# Altium schematic symbol library Integrated_Circuit.SchLib: 146 symbols (part 1 of 3)
Pins are listed as number, name and electrical type; pins without a type are passive.

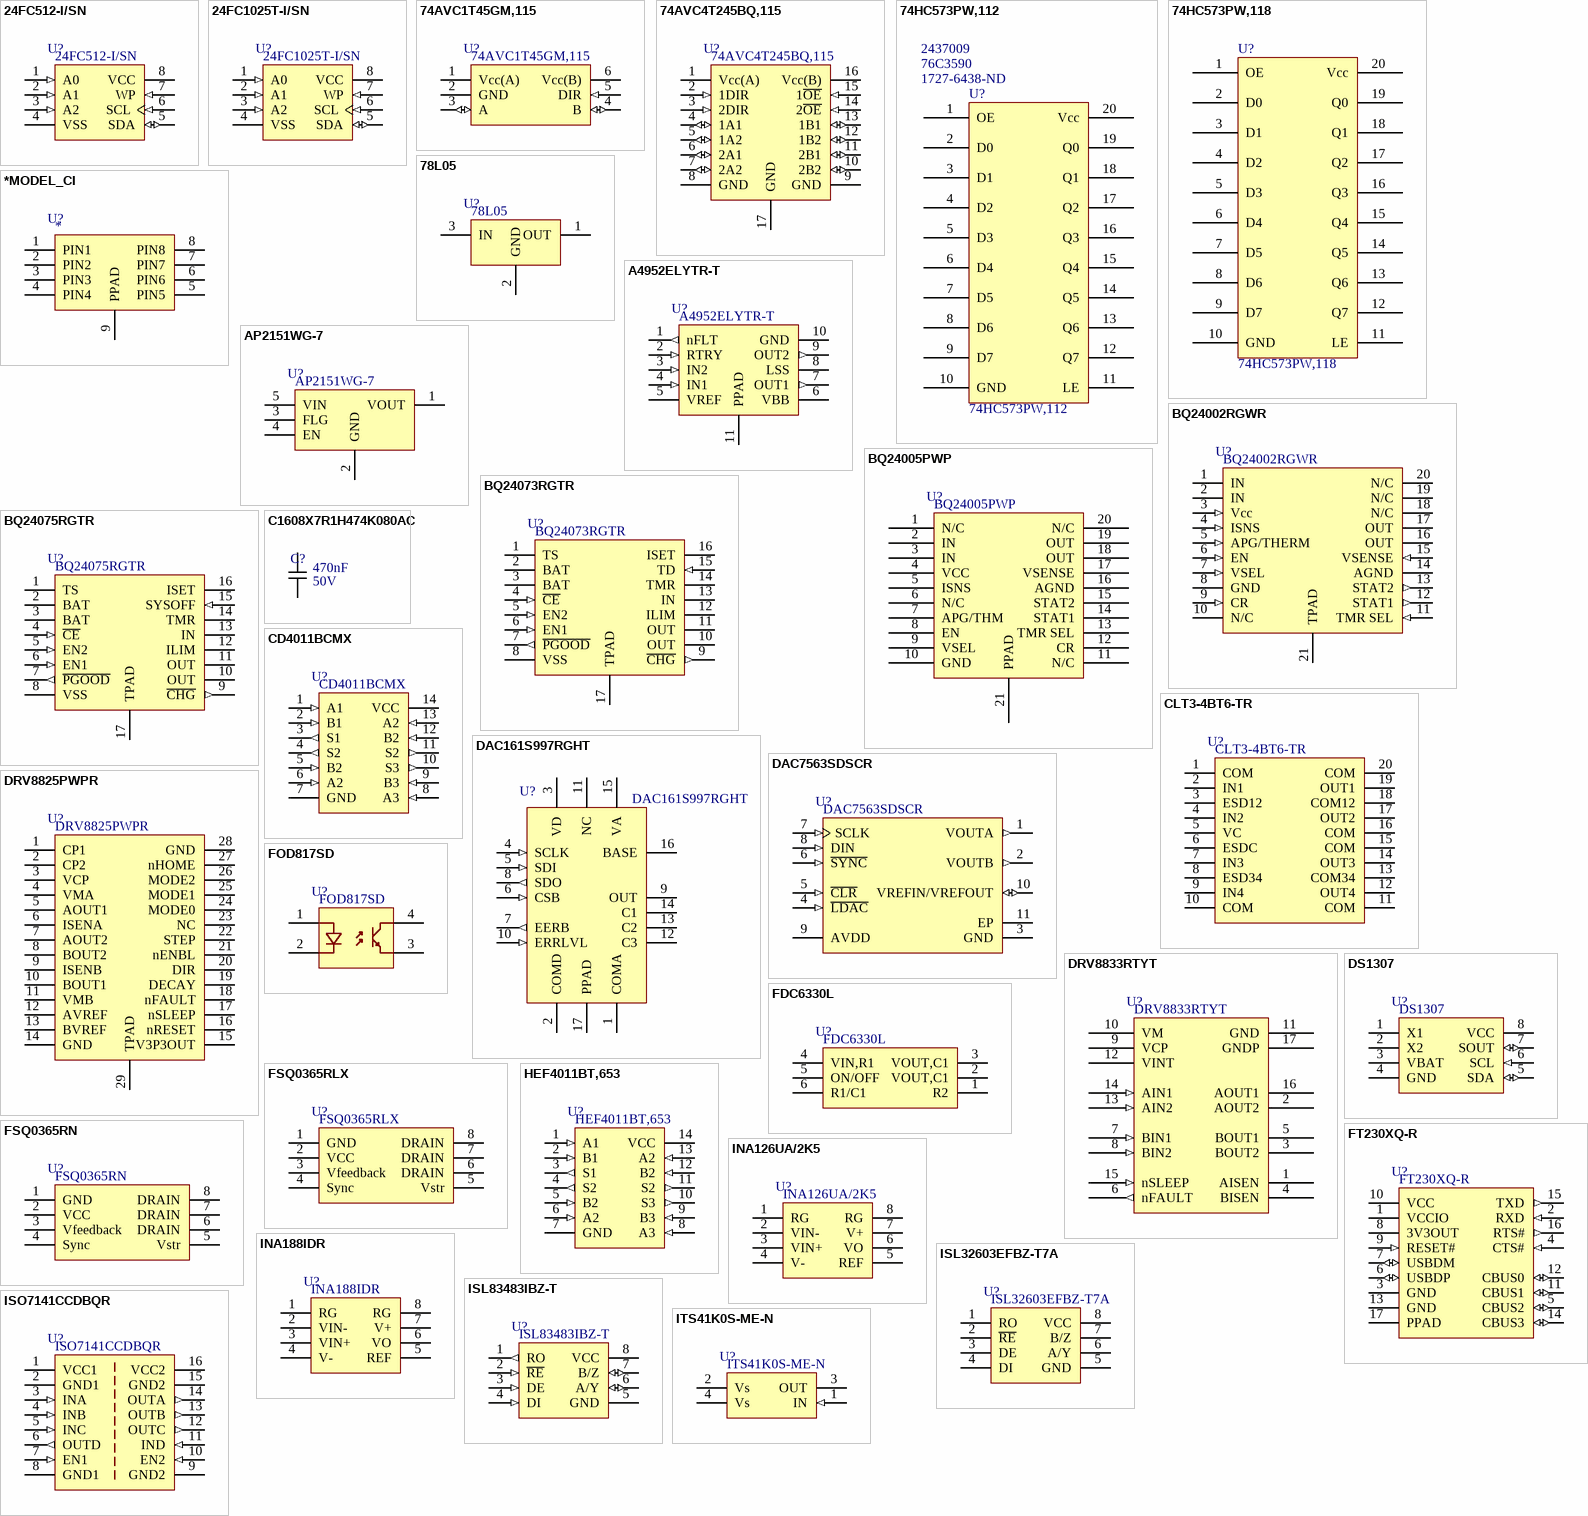
[diagram p0: symbols 24FC512-I/SN to ITS41K0S-ME-N]

## 24FC512-I/SN
designator U?
IC EEPROM 512KBIT 1MHZ 8SOIC; Manufacturer: Microchip; Mount Type: SMD; Category: Memory; Supplier 1: Digikey; Supplier Part Number 1: 24FC512-I/SN-ND; Supplier 2: Newark; Supplier Part Number 2: 08R2176; Supplier 3: Avnet; Supplier Part Number 3: 24FC512-I/SN; Supplier 4: Arrow; Supplier Part Number 4: 24FC512-I/SN; Supplier 5: Farnell; Supplier Part Number 5: 2318011; Value: 24FC512-I/SN
footprint SOIC-8 (SOIC, 8 Pin, Pitch 1,27mm)
pins: 1 A0 (in), 2 A1 (in), 3 A2 (in), 4 VSS (power), 5 SDA (io), 6 SCL (in), 7 WP (in), 8 VCC (power)
1 alternate drawing of the same symbol

## 24FC1025T-I/SN
designator U?
IC EEPROM 1MBIT 1MHZ 8SOIC; Manufacturer: Microchip; Mount Type: SMD; Category: Memory; Supplier 1: Mouser; Supplier 2: Newark; Supplier 3: Digi-Key; Supplier Part Number 1: 579-24FC1025T-I/SN; Supplier Part Number 2: 86W6593; Supplier Part Number 3: 24FC1025-I/SN-ND; Value: 24FC1025T-I/SN
footprint SOIC-8 (SOIC, 8 Pin, Pitch 1,27mm)
pins: 1 A0 (in), 2 A1 (in), 3 A2 (in), 4 VSS (power), 5 SDA (io), 6 SCL (in), 7 WP (in), 8 VCC (power)

## 74AVC1T45GM,115
designator U?
IC TRANSCEIVER DUAL 3ST 6XSON; Manufacturer: NXP Semiconductors; Mount type: SMD; Category: Logic - Translators; Supplier 1: Digi-Key; Supplier Part Number 1: 568-9214-1-ND; Value: 74AVC1T45GM,115
footprint XSON-6
pins: 1 Vcc(A) (power), 2 GND, 3 A (io), 4 B (io), 5 DIR (in), 6 Vcc(B) (power)

## 74AVC4T245BQ,115
designator U?
IC TXRX 4BIT DUAL 3ST 16DHVQFN; Manufacturer: NXP Semiconductors; Mount type: SMD; Category: Logic - Translators; Supplier 1: Digi-Key; Supplier Part Number 1: 568-9218-1-ND; Value: 74AVC4T245BQ,115
footprint VFQFN-16 (QFN, 16 Pin, 0.5mm Pitch)
pins: 1 Vcc(A) (power), 2 1DIR (in), 3 2DIR (in), 4 1A1 (io), 5 1A2 (io), 6 2A1 (io), 7 2A2 (io), 8 GND (power), 9 GND (power), 10 2B2 (io), 11 2B1 (io), 12 1B2 (io), 13 1B1 (io), 14 2~{OE} (in), 15 1~{OE} (in), 16 Vcc(B) (power), 17 GND (power)

## 74HC573PW,112
designator U?  Supplier Part Number 2: 1727-6438-ND  Supplier Part Number 3: 76C3590  Supplier Part Number 4: 2437009
IC LATCH TRANSP OCT D 20TSSOP; Manufacturer: Nexperia USA Inc.; Supplier 1: Digikey; Supplier Part Number 1: 568-10928-6-ND; Mounting Type: SMD; Supplier 2: Digi-Key; Supplier 3: Newark; Supplier 4: Farnell
footprint TSSOP-20
pins: 1 OE, 2 D0, 3 D1, 4 D2, 5 D3, 6 D4, 7 D5, 8 D6, 9 D7, 10 GND, 11 LE, 12 Q7, 13 Q6, 14 Q5, 15 Q4, 16 Q3, 17 Q2, 18 Q1, 19 Q0, 20 Vcc

## 74HC573PW,118
designator U?
IC LATCH TRANSP OCT D 20TSSOP; Manufacturer: Nexperia USA Inc.; Mounting Type: SMD; Supplier 1: Digi-Key; Supplier Part Number 1: 1727-3069-2-ND; Supplier 2: Digi-Key; Supplier Part Number 2: 1727-3069-6-ND; Supplier 3: Digi-Key; Supplier Part Number 3: 1727-6438-ND; Supplier 4: Digi-Key; Supplier Part Number 4: 1727-1458-1-ND; Supplier 5: Digi-Key; Supplier Part Number 5: 1727-1458-6-ND
footprint TSSOP-20
footprint TSSOP-20
pins: 1 OE, 2 D0, 3 D1, 4 D2, 5 D3, 6 D4, 7 D5, 8 D6, 9 D7, 10 GND, 11 LE, 12 Q7, 13 Q6, 14 Q5, 15 Q4, 16 Q3, 17 Q2, 18 Q1, 19 Q0, 20 Vcc

## 78L05
designator U?, comment value 78L05  (hidden comment: LM78L05)
IC 5.0V 100MA REGULATOR TO-92-3; Manufacturer: Texas Instruments; Category: Regulator; Mount Type: PTH
footprint TO-92
pins: 1 OUT, 2 GND (power), 3 IN

## *MODEL_CI
designator U?, comment Part Number  (value not drawn)
Description; Mount Type: *; Manufacturer: *; Category: *; Value: *
pins: 1 PIN1, 2 PIN2, 3 PIN3, 4 PIN4, 5 PIN5, 6 PIN6, 7 PIN7, 8 PIN8, 9 PPAD
1 alternate drawing of the same symbol

## A4952ELYTR-T
designator U?
IC MOTOR DRIVER PAR 10MSOP; Manufacturer: Allegro MicroSystems, LLC; Mount Type: SMD; Category: Driver; Supplier 1: Allied; Supplier 2: Newark; Supplier 3: Farnell; Supplier 4: Digi-Key; Supplier Part Number 1: R1076651; Supplier Part Number 2: 71T9770; Supplier Part Number 3: 2057419; Supplier Part Number 4: 620-1451-1-ND; Value: A4952ELYTR-T
footprint MSOP-10
pins: 1 nFLT (out), 2 RTRY (in), 3 IN2 (in), 4 IN1 (in), 5 VREF, 6 VBB (power), 7 OUT1 (out), 8 LSS, 9 OUT2 (out), 10 GND, 11 PPAD

## AP2151WG-7
designator U?
IC PWR SW USB 1CH 0.5A SOT-23-5; Manufacturer: Diodes Incorporated; Category: Regulator; Mount Type: SMD; Supplier 1: Mouser; Supplier 2: Newark; Supplier 3: Farnell; Supplier 4: Digi-Key; Supplier Part Number 1: 621-AP2151WG-7; Supplier Part Number 2: 12T1275; Supplier Part Number 3: 1843872; Supplier Part Number 4: AP2151WGDICT-ND; Value: AP2151WG-7
footprint SOT23-5
pins: 1 VOUT, 2 GND, 3 FLG, 4 EN, 5 VIN (power)

## BQ24002RGWR
designator U?
IC LI-ION CHARGE MGMT 20VQFN; Manufacturer: Texas Instruments; Mount type: SMD; Category: Battery Charger; Supplier 1: Digi-Key; Supplier Part Number 1: 296-12969-1-ND; Supplier 2: Mouser; Supplier Part Number 2: 595-BQ24002RGWR; Supplier 3: Newark; Supplier Part Number 3: 24K4381; Value: BQ24002RGWR
footprint VQFN-20 (20-Pin Plastic Quad Flat No-Lead 0.65 mm Pitch)
pins: 1 IN (power), 2 IN (power), 3 Vcc (in), 4 ISNS (in), 5 APG/THERM (in), 6 EN (in), 7 VSEL (in), 8 GND, 9 CR (in), 10 N/C, 11 TMR SEL (in), 12 STAT1 (out), 13 STAT2 (out), 14 AGND (power), 15 VSENSE (in), 16 OUT (power), 17 OUT (power), 18 N/C, 19 N/C, 20 N/C, 21 TPAD

## BQ24005PWP
designator U?
IC LI-ION CHARGE MGMT 20-HTSSOP; Manufacturer: Texas Instruments; Mount Type: SMD; Category: Battery Charger; Supplier 1: Farnell; Supplier 2: Digi-Key; Supplier 3: Newark; Supplier 4: Mouser; Supplier Part Number 1: 1106058; Supplier Part Number 2: 296-9382-5-ND; Supplier Part Number 3: 74C7641; Supplier Part Number 4: 595-BQ24005PWP; Value: BQ24005PWP
footprint TSSOP-20-PPAD
pins: 1 N/C, 2 IN, 3 IN, 4 VCC, 5 ISNS, 6 N/C, 7 APG/THM, 8 EN, 9 VSEL, 10 GND, 11 N/C, 12 CR, 13 TMR SEL, 14 STAT1, 15 STAT2, 16 AGND, 17 VSENSE, 18 OUT, 19 OUT, 20 N/C, 21 PPAD

## BQ24073RGTR
designator U?
IC LI-ION CHARGE MGMT 16-QFN; Manufacturer: Texas Instruments; Mount type: SMD; Category: Battery Charger; Supplier 1: Digi-Key; Supplier Part Number 1: 296-38872-1-ND; Supplier 2: Mouser; Supplier Part Number 2: 595-BQ24073RGTR; Supplier 3: Newark; Supplier Part Number 3: 84R9382; Supplier 4: Farnell; Supplier Part Number 4: 1754754; Value: BQ24073RGTR
footprint QFN-16 0.5 Pitch (QFN, 16 Pin, 0,5mm Pitch)
pins: 1 TS, 2 BAT (power), 3 BAT (power), 4 ~{CE} (in), 5 EN2 (in), 6 EN1 (in), 7 ~{PGOOD} (out), 8 VSS (power), 9 ~{CHG} (out), 10 OUT (power), 11 OUT (power), 12 ILIM, 13 IN (power), 14 TMR, 15 TD (in), 16 ISET, 17 TPAD

## BQ24075RGTR
designator U?
IC LI-ION CHARGE MGMT 16-QFN; Manufacturer: Texas Instruments; Mount type: SMD; Category: Battery Charger; Supplier 1: Arrow; Supplier Part Number 1: BQ24075RGTR**MULT1; Supplier 2: Digikey; Supplier Part Number 2: 296-38874-1-ND; Supplier 3: Mouser; Supplier Part Number 3: 595-BQ24075RGTR; Supplier 4: Newark; Supplier Part Number 4: 31P7535; Supplier 5: Avnet; Supplier Part Number 5: BQ24075RGTR; Value: BQ24075RGTR
footprint QFN-16 0.5 Pitch (QFN, 16 Pin, 0,5mm Pitch)
pins: 1 TS, 2 BAT (power), 3 BAT (power), 4 ~{CE} (in), 5 EN2 (in), 6 EN1 (in), 7 ~{PGOOD} (out), 8 VSS (power), 9 ~{CHG} (out), 10 OUT (power), 11 OUT (power), 12 ILIM, 13 IN (power), 14 TMR, 15 SYSOFF (in), 16 ISET, 17 TPAD

## C1608X7R1H474K080AC
designator C?  value 470nF  Voltage: 50V  (hidden comment: C1608X7R1H474K080AC)
CAP CER 0.47UF 50V 10% X7R 0603; Manufacturer: TDK Corporation; Mount Type: SMD; Category: *; Dielectric: *; Supplier 1: Digi-Key; Supplier Part Number 1: 445-5952-1-ND
footprint C0603_MD (Chip Capacitor, Body 1.6x0.8mm, IPC Medium Density)
pins: 1, 2

## CD4011BCMX
designator U?
IC GATE NAND 4CH 2-INP 14-SOIC; Manufacturer: Fairchild Semiconductor; Mount Type: SMD; Category: Logic Gate; Supplier 1: Mouser; Supplier 2: Newark; Supplier 3: Farnell; Supplier 4: Digi-Key; Supplier Part Number 1: 512-CD4011BCMX; Supplier Part Number 2: 36K3118; Supplier Part Number 3: 9666311; Supplier Part Number 4: CD4011BCM-ND; Value: CD4011BCMX
footprint SOIC-14
pins: 1 A1 (in), 2 B1 (in), 3 S1 (out), 4 S2 (out), 5 B2 (in), 6 A2 (in), 7 GND (power), 8 A3 (in), 9 B3 (in), 10 S3 (out), 11 S2 (out), 12 B2 (in), 13 A2 (in), 14 VCC (power)

## CLT3-4BT6-TR
designator U?
TERMINATION QUAD DGTL TSSOP-20; Manufacturer: STMicroelectronics; Mount Type: SMD; Category: Circuit Protection; Supplier 1: Digi-Key; Supplier Part Number 1: 497-2455-1-ND; Value: CLT3-4BT6-TR
footprint TSSOP-20
pins: 1 COM, 2 IN1, 3 ESD12, 4 IN2, 5 VC, 6 ESDC, 7 IN3, 8 ESD34, 9 IN4, 10 COM, 11 COM, 12 OUT4, 13 COM34, 14 OUT3, 15 COM, 16 COM, 17 OUT2, 18 COM12, 19 OUT1, 20 COM

## DAC161S997RGHT
designator U?
IC DAC 16BIT SPI/SRL 16WQFN; Manufacturer: Texas Instruments; Moun Type: SMD; Category: DAC; Supplier 1: Newark; Supplier 2: Mouser; Supplier 3: Digi-Key; Supplier Part Number 1: 04X4645; Supplier Part Number 2: 595-DAC161S997RGHT; Supplier Part Number 3: 296-36425-1-ND; Value: DAC161S997RGHT
footprint WQFN-16 (QFN, 16 Pin, 0.5mm Pitch)
pins: 1 COMA (power), 2 COMD (power), 3 VD (power), 4 SCLK (in), 5 SDI (in), 6 CSB (in), 7 EERB (out), 8 SDO (out), 9 OUT, 10 ERRLVL (in), 11 NC, 12 C3, 13 C2, 14 C1, 15 VA (power), 16 BASE, 17 PPAD

## DAC7563SDSCR
designator U?
IC DAC 12BIT SRL DUAL 10WSON; Manufacturer: Texas Instruments; Mount Type: SMD; Category: DAC; Supplier 1: Digi-Key; Supplier Part Number 1: 296-29025-1-ND; Supplier 2: Avnet; Supplier Part Number 2: DAC7563SDSCR; Value: DAC7563SDSCR
footprint WFDFN-10-PPAD
pins: 1 VOUTA (out) "Analog output voltage from DAC-A", 2 VOUTB (out) "Analog output voltage from DAC-B", 3 GND (power) "Ground reference point for all circuitry on the device", 4 ~{LDAC} (in) "In synchronous mode, data are updated with the falling edge of the 24th SCLK cycle, which follows a falling edge of S\Y\N\C\. For such synchronous updates, the L\D\A\C\ pin is not required, and it must be connected to GND (See Datasheet)", 5 ~{CLR} (in) "Asynchronous clear input. The C\L\R\ input is falling-edge sensitive. When C\L\R\ is activated, zero scale (DACxx62) or mid-scale (DACxx63) is loaded to all input and DAC registers. This sets the DAC output voltages (See Datasheet)", 6 ~{SYNC} (in) "Level-triggered control input (active-low). This input is the frame synchronization signal for the input data. When S\Y\N\C\ goes low, it enables the input shift register, and data are sampled on subsequent falling clock (See Datasheet)", 7 SCLK (in) "Serial clock input. Data can be transferred at rates up to 50 MHz. Schmitt-trigger logic input", 8 DIN (in) "Serial data input. Data are clocked into the 24-bit input shift register on each falling edge of the serial clock input. Schmitt-trigger logic input", 9 AVDD (power) "Power-supply input, 2.7 V to 5.5 V", 10 VREFIN/VREFOUT (io) "Bidirectional voltage reference pin. If internal reference is used, 2.5-V output.", 11 EP (power) "It is recommended to connect the thermal pad to the ground plane for better thermal dissipation."

## DRV8825PWPR
designator U?
IC MOTOR DRIVER PAR 28HTSSOP; Manufacturer: Texas Instruments; Mount Type: SMD; Category: Driver; Supplier 1: Newark; Supplier Part Number 1: 48T4144; Supplier 2: Farnell; Supplier Part Number 2: 1903642; Supplier 3: Digi-Key; Supplier Part Number 3: 296-29503-1-ND; Value: DRV8825PWPR
footprint HTSSOP-28 (HTSSOP, Plastic; 16 Leads; Pitch 0.65 mm)
pins: 1 CP1, 2 CP2, 3 VCP, 4 VMA, 5 AOUT1, 6 ISENA, 7 AOUT2, 8 BOUT2, 9 ISENB, 10 BOUT1, 11 VMB, 12 AVREF, 13 BVREF, 14 GND, 15 V3P3OUT, 16 nRESET, 17 nSLEEP, 18 nFAULT, 19 DECAY, 20 DIR, 21 nENBL, 22 STEP, 23 NC, 24 MODE0, 25 MODE1, 26 MODE2, 27 nHOME, 28 GND, 29 TPAD

## DRV8833RTYT
designator U?
IC MOTOR DRIVER PAR 16QFN; Manufacturer: Texas Instruments; Mount Type: SMD; Category: Driver; Supplier 1: Mouser; Supplier 2: Farnell; Supplier 3: Digi-Key; Supplier 4: Newark; Supplier Part Number 1: 595-DRV8833RTYT; Supplier Part Number 2: 2057087; Supplier Part Number 3: 296-29513-1-ND; Supplier Part Number 4: 64T2942; Value: DRV8833RTYT
footprint QFN-16 (QFN, 16 Pin, 0,65mm Pitch)
pins: 1 AISEN, 2 AOUT2, 3 BOUT2, 4 BISEN, 5 BOUT1, 6 nFAULT (out), 7 BIN1 (in), 8 BIN2 (in), 9 VCP, 10 VM (power), 11 GND (power), 12 VINT, 13 AIN2 (in), 14 AIN1 (in), 15 nSLEEP (in), 16 AOUT1, 17 GNDP

## DS1307
designator U?
IC RTC SERIAL 512K 8-DIP; Manufacturer: Maxim Integrated Products; Mount Type: PTH; Category: RTC; Value: DS1307
footprint DIP-8 (DIP, 8-Pin, Row Spacing 7.62 mm, Pitch 2.54 mm)
pins: 1 X1, 2 X2, 3 VBAT (power), 4 GND (power), 5 SDA (io), 6 SCL (in), 7 SOUT (io), 8 VCC (power)

## FDC6330L
designator U?
IC LOAD SWITCH INT 20VIN SSOT-6; Manufacturer: Fairchild Semiconductor; Category: Switch; Mount Type: SMD; Supplier 1: Newark; Supplier 2: Mouser; Supplier 3: Digi-Key; Supplier 4: Farnell; Supplier Part Number 1: 58K8823; Supplier Part Number 2: 512-FDC6330L; Supplier Part Number 3: FDC6330LCT-ND; Supplier Part Number 4: 9844864; Value: FDC6330L
footprint TSOT-23-6
pins: 1 R2, 2 VOUT,C1, 3 VOUT,C1, 4 VIN,R1, 5 ON/OFF, 6 R1/C1

## FOD817SD
designator U?
OPTOISOLATOR 5KV TRANSISTOR 4SMD; Manufacturer: Fairchild Semiconductor; Category: OPTOISOLATOR; Mount Type: SMD; Supplier 1: Newark; Supplier Part Number 1: 31Y1499; Supplier 2: Mouser; Supplier Part Number 2: 512-FOD817S; Supplier 3: Farnell; Supplier Part Number 3: 2453207; Supplier 4: Digi-Key; Supplier Part Number 4: FOD817SDCT-ND; Value: FOD817SD
footprint SOP-4 (SOP, 4 Pin, 1.27mm Pitch)
pins: 1, 2, 3, 4

## FSQ0365RLX
designator U?
IC SWIT PWM GREEN OVP UVLO 8SOP; Manufacturer: Fairchild; Category: Power Supply; Mount Type: SMD; Supplier 1: Mouser; Supplier Part Number 1: 512-FSQ0365RLX; Supplier 2: Digi-Key; Supplier Part Number 2: FSQ0365RLX-ND; Supplier 3: Farnell; Supplier Part Number 3: 2084001; Value: FSQ0365RLX
footprint SOIC-8 (SOIC, 8 Pin, Pitch 1,27mm)
pins: 1 GND (power), 2 VCC (power), 3 Vfeedback, 4 Sync, 5 Vstr, 6 DRAIN, 7 DRAIN, 8 DRAIN

## FSQ0365RN
designator U?
IC SWIT PWM GREEN OVP UVLO 8DIP; Manufacturer: Fairchild Semiconductor; Category: Power Supply; Mount Type: PTH; Supplier 1: Digi-Key; Supplier Part Number 1: FSQ0365RNFS-ND; Supplier 2: Mouser; Supplier Part Number 2: 512-FSQ0365RN; Supplier 3: Newark; Supplier Part Number 3: 53M7708; Supplier 4: Farnell; Supplier Part Number 4: 1421266; Value: FSQ0365RN
footprint DIP-8 (DIP, 8-Pin, Row Spacing 7.62 mm, Pitch 2.54 mm)
pins: 1 GND (power), 2 VCC (power), 3 Vfeedback, 4 Sync, 5 Vstr, 6 DRAIN, 7 DRAIN, 8 DRAIN

## FT230XQ-R
designator U?
IC USB SERIAL BASIC UART 16QFN; Manufacturer: FTDI; Mount Type: SMD; Category: Interface; Supplier 1: Digi-Key; Supplier Part Number 1: 768-1130-1-ND; Value: FT230XQ-R
footprint QFN-16 (QFN, 16 Pin, 0,65mm Pitch)
pins: 1 VCCIO (power), 2 RXD (in), 3 GND (power), 4 CTS# (in), 5 CBUS2 (io), 6 USBDP (io), 7 USBDM (io), 8 3V3OUT (power), 9 RESET# (in), 10 VCC (power), 11 CBUS1 (io), 12 CBUS0 (io), 13 GND (power), 14 CBUS3 (io), 15 TXD (out), 16 RTS# (out), 17 PPAD (power)

## HEF4011BT,653
designator U?
IC GATE NAND 4CH 2-INP 14-SOIC; Manufacturer: NXP Semiconductors; Mount Type: SMD; Category: Logic Gate; Supplier 1: Newark; Supplier 2: Digi-Key; Supplier 3: Mouser; Supplier 4: Farnell; Supplier Part Number 1: 05B5582; Supplier Part Number 2: 568-3075-5-ND; Supplier Part Number 3: 771-HEF4011BTD; Supplier Part Number 4: 2439310; Value: HEF4011BT,653
footprint SOIC-14
pins: 1 A1 (in), 2 B1 (in), 3 S1 (out), 4 S2 (out), 5 B2 (in), 6 A2 (in), 7 GND (power), 8 A3 (in), 9 B3 (in), 10 S3 (out), 11 S2 (out), 12 B2 (in), 13 A2 (in), 14 VCC (power)

## INA126UA/2K5
designator U?
IC OPAMP INSTR 200KHZ 8SOIC; Manufacturer: Texas Instruments; Mount Type: SMD; Category: AmpOp; Supplier 1: Digi-Key; Supplier Part Number 1: 296-31643-1-ND; Value: INA126UA/2K5
footprint SOIC-8 (SOIC, 8 Pin, Pitch 1,27mm)
simulation model INA126 (Model Description)
pins: 1 RG, 2 VIN-, 3 VIN+, 4 V- (power), 5 REF, 6 VO, 7 V+ (power), 8 RG

## INA188IDR
designator U?
IC OP AMP R-R OUT ZD 8SOIC; Manufacturer: Texas Instruments; Mount Type: SMD; Category: AmpOp; Supplier 1: Farnell; Supplier Part Number 1: 2507235; Supplier 2: Newark; Supplier Part Number 2: 75Y1102; Supplier 3: Avnet; Supplier Part Number 3: INA188IDR; Supplier 4: Digi-Key; Supplier Part Number 4: 296-43151-1-ND; Value: INA188IDR
footprint SOIC-8 (SOIC, 8 Pin, Pitch 1,27mm)
simulation model INA188 (Model Description)
pins: 1 RG, 2 VIN-, 3 VIN+, 4 V- (power), 5 REF, 6 VO, 7 V+ (power), 8 RG

## ISL32603EFBZ-T7A
designator U?
IC TXRX RS485/422 ESD 8SOIC; Manufacturer: Intersil; Mount Type: SMD; Category: Transciever; Supplier 1: Newark; Supplier 2: Mouser; Supplier 3: Digi-Key; Supplier Part Number 1: 18W6580; Supplier Part Number 2: 968-ISL32603EFBZ-T7A; Supplier Part Number 3: ISL32603EFBZ-T7ACT-ND; Value: ISL32603EFBZ-T7A
footprint SOIC-8 (SOIC, 8 Pin, Pitch 1,27mm)
pins: 1 RO, 2 ~{RE}, 3 DE, 4 DI, 5 GND, 6 A/Y, 7 B/Z, 8 VCC

## ISL83483IBZ-T
designator U?
TXRX RS-485/422 3.3V LP 8-SOIC; Manufacturer: Intersil; Mount Type: SMD; Category: Transciever; Supplier 1: Farnell; Supplier Part Number 1: 1296639; Supplier 2: Newark; Supplier Part Number 2: 65T7312; Supplier 3: Digi-Key; Supplier Part Number 3: ISL83483IBZ-T7ACT-ND; Supplier 4: Mouser; Supplier Part Number 4: 968-ISL83483IBZ; Value: ISL83483IBZ-T
footprint SOIC-8 (SOIC, 8 Pin, Pitch 1,27mm)
pins: 1 RO (out), 2 ~{RE} (in), 3 DE (in), 4 DI (in), 5 GND (power), 6 A/Y (io), 7 B/Z (io), 8 VCC (power)

## ISO7141CCDBQR
designator U?
DGTL ISO 2.5KV GEN PURP 16SSOP; Manufacturer: Texas Instruments; Mount Type: SMD; Category: Isolator; Supplier 1: Newark; Supplier Part Number 1: 08X4584; Supplier 2: Avnet; Supplier Part Number 2: ISO7141CCDBQR; Supplier 3: Digi-Key; Supplier Part Number 3: 296-40137-1-ND; Supplier 4: Farnell; Supplier Part Number 4: 2345965; Value: ISO7141CCDBQR
footprint SSOP16 - 0.635 pitch
pins: 1 VCC1 (power), 2 GND1 (power), 3 INA (in), 4 INB (in), 5 INC (in), 6 OUTD (out), 7 EN1 (in), 8 GND1 (power), 9 GND2 (power), 10 EN2 (in), 11 IND (in), 12 OUTC (out), 13 OUTB (out), 14 OUTA (out), 15 GND2 (power), 16 VCC2 (power)

## ITS41K0S-ME-N
designator U?
IC SMART SWITCH HS NMOS SOT-223; Manufacturer: Infineon Technologies; Mount Type: SMD; Category: Switch; Supplier 1: Mouser; Supplier Part Number 1: 726-ITS41K0S-ME-N; Supplier 2: Newark; Supplier Part Number 2: 50Y2154; Supplier 3: Farnell; Supplier Part Number 3: 2480578; Supplier 4: Digi-Key; Supplier Part Number 4: ITS41K0S-ME-NCT-ND; Value: ITS41K0S-ME-N
footprint SOT223 (SOT223, 4-Leads, Body 6.5x3.5mm, Pitch 2.3mm, Lead Span 7mm, IPC Medium Density)
pins: 1 IN (in), 2 Vs, 3 OUT, 4 Vs (power)

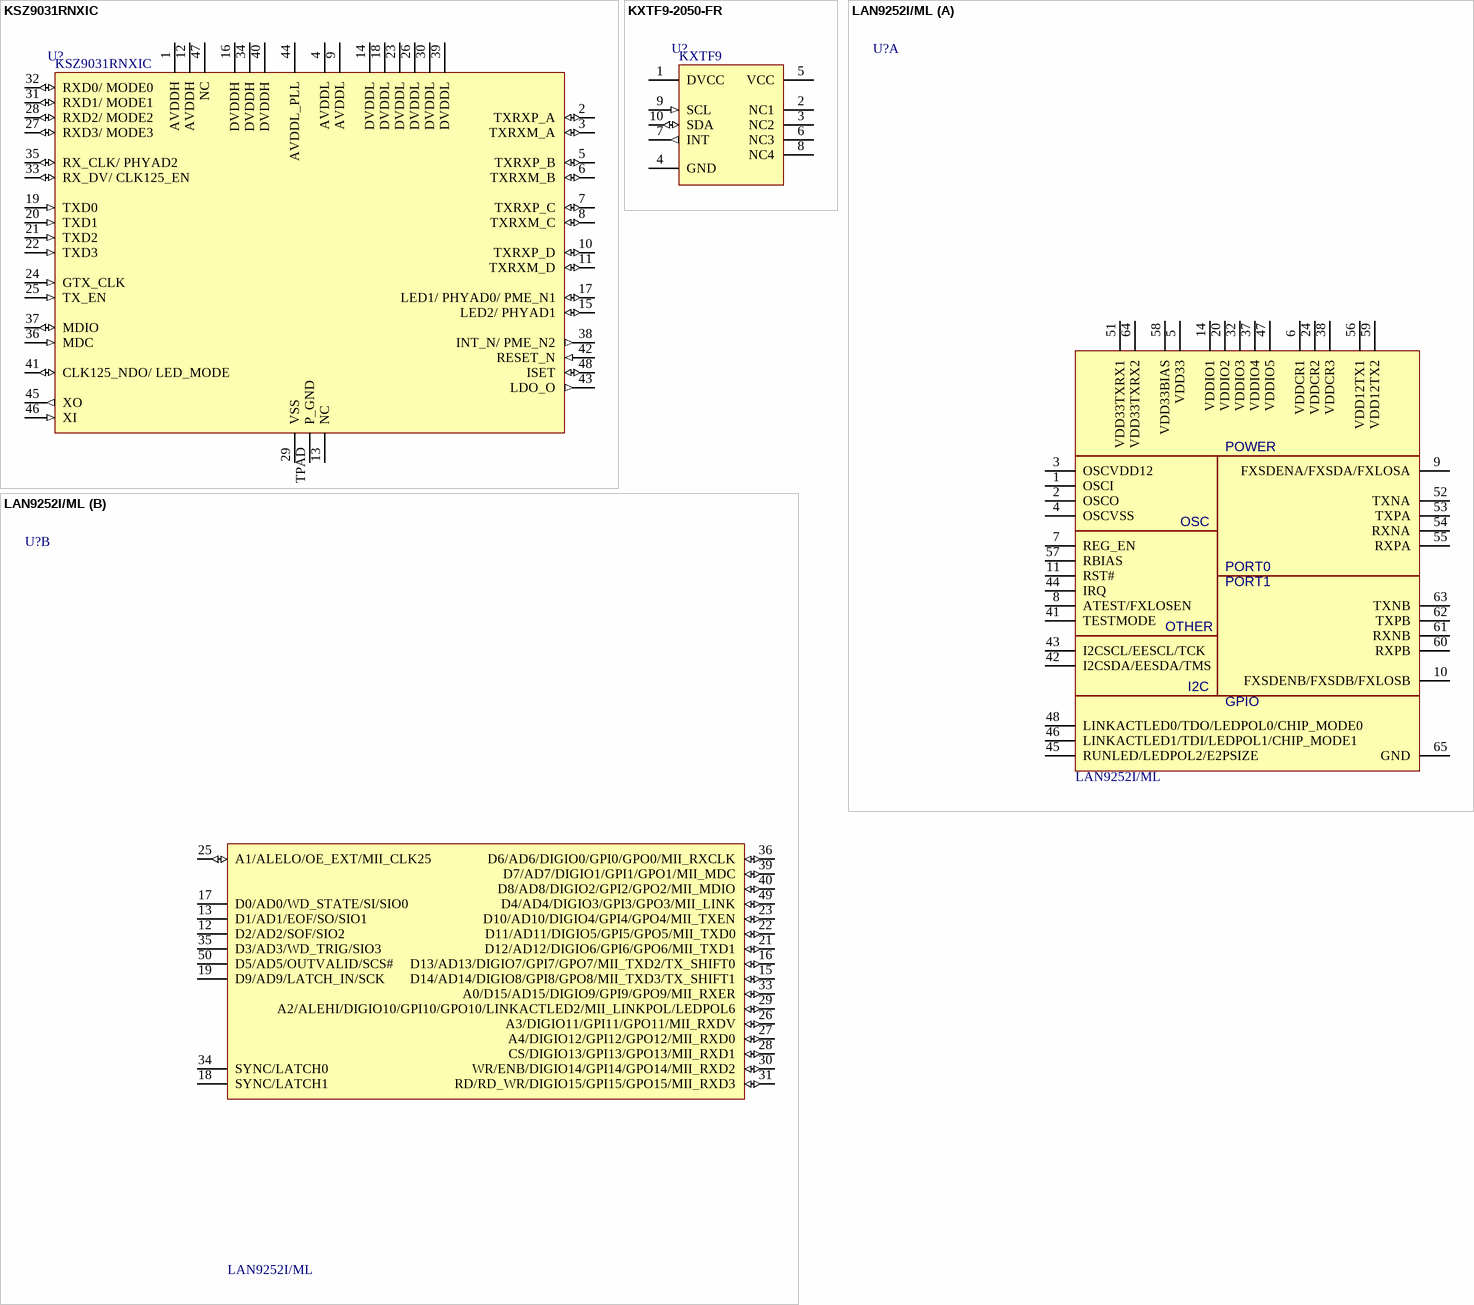
[diagram p1: symbols KSZ9031RNXIC to LAN9252I/ML]

## KSZ9031RNXIC
designator U?
IC TXRX ETHERNET; Manufacturer: Microchip Technology; Mount Type: SMD; Category: Ethernet PHY; Supplier 1: Digikey; Supplier Part Number 1: KSZ9031RNXIC-ND; Supplier 2: Arrow; Supplier Part Number 2: KSZ9031RNXIC; Supplier 3: Mouser; Supplier Part Number 3: 998-KSZ9031RNXIC; Supplier 4: Newark; Supplier Part Number 4: 70Y9066; Value: KSZ9031RNXIC
footprint VFQFN-48 (QFN, 48 Pin, 0.5mm Pitch)
ibis ksz9031rnx_1v8 (Model Description)
ibis ksz9031rnx_2v5 (Model Description)
ibis ksz9031rnx_3v3 (Model Description)
pins: 1 AVDDH (power), 2 TXRXP_A (io), 3 TXRXM_A (io), 4 AVDDL (power), 5 TXRXP_B (io), 6 TXRXM_B (io), 7 TXRXP_C (io), 8 TXRXM_C (io), 9 AVDDL (power), 10 TXRXP_D (io), 11 TXRXM_D (io), 12 AVDDH (power), 13 NC, 14 DVDDL (power), 15 LED2/ PHYAD1 (io), 16 DVDDH (power), 17 LED1/ PHYAD0/ PME_N1 (io), 18 DVDDL (power), 19 TXD0 (in), 20 TXD1 (in), 21 TXD2 (in), 22 TXD3 (in), 23 DVDDL (power), 24 GTX_CLK (in), 25 TX_EN (in), 26 DVDDL (power), 27 RXD3/ MODE3 (io), 28 RXD2/ MODE2 (io), 29 VSS (power), 30 DVDDL (power), 31 RXD1/ MODE1 (io), 32 RXD0/ MODE0 (io), 33 RX_DV/ CLK125_EN (io), 34 DVDDH (power), 35 RX_CLK/ PHYAD2 (io), 36 MDC (in), 37 MDIO (io), 38 INT_N/ PME_N2 (out), 39 DVDDL (power), 40 DVDDH (power), 41 CLK125_NDO/ LED_MODE (io), 42 RESET_N (in), 43 LDO_O (out), 44 AVDDL_PLL (power), 45 XO (out), 46 XI (in), 47 NC, 48 ISET (io), TPAD P_GND (power)

## KXTF9-2050-FR
designator U?  value KXTF9  (hidden comment: KXTF9-2050-FR)
IC ACCELEROMETER TRI-AXIS 10-LGA; Manufacturer: Kionix Inc; Mount type: SMD; Category: Accelerometers; Supplier 1: Digi-Key; Supplier Part Number 1: 1191-1000-1-ND
footprint VFLGA-10
pins: 1 DVCC, 2 NC1, 3 NC2, 4 GND, 5 VCC, 6 NC3, 7 INT (out), 8 NC4, 9 SCL (in), 10 SDA (io)

## LAN9252I/ML
designator U?
IC ETHERCAT CTLR 10/100 64QFN; Manufacturer: Microchip Technology; Category: Interface - Controllers; Mount Type: SMD; Supplier 1: Newark; Supplier Part Number 1: 46Y7861; Supplier 2: Arrow; Supplier Part Number 2: LAN9252I/ML; Supplier 3: Mouser; Supplier Part Number 3: 579-LAN9252I/ML; Supplier 4: Digi-Key; Supplier Part Number 4: LAN9252I/ML-ND; Value: LAN9252I/ML
footprint VFQFN-64
part A pins: 1 OSCI, 2 OSCO, 3 OSCVDD12, 4 OSCVSS, 5 VDD33 (power), 6 VDDCR1 (power), 7 REG_EN (power), 8 ATEST/FXLOSEN, 9 FXSDENA/FXSDA/FXLOSA, 10 FXSDENB/FXSDB/FXLOSB, 11 RST#, 14 VDDIO1 (power), 20 VDDIO2 (power), 24 VDDCR2 (power), 32 VDDIO3 (power), 37 VDDIO4 (power), 38 VDDCR3 (power), 41 TESTMODE, 42 I2CSDA/EESDA/TMS, 43 I2CSCL/EESCL/TCK, 44 IRQ, 45 RUNLED/LEDPOL2/E2PSIZE, 46 LINKACTLED1/TDI/LEDPOL1/CHIP_MODE1, 47 VDDIO5 (power), 48 LINKACTLED0/TDO/LEDPOL0/CHIP_MODE0, 51 VDD33TXRX1 (power), 52 TXNA, 53 TXPA, 54 RXNA, 55 RXPA, 56 VDD12TX1 (power), 57 RBIAS, 58 VDD33BIAS (power), 59 VDD12TX2 (power), 60 RXPB, 61 RXNB, 62 TXPB, 63 TXNB, 64 VDD33TXRX2 (power), 65 GND
part B pins: 12 D2/AD2/SOF/SIO2, 13 D1/AD1/EOF/SO/SIO1, 15 D14/AD14/DIGIO8/GPI8/GPO8/MII_TXD3/TX_SHIFT1 (io), 16 D13/AD13/DIGIO7/GPI7/GPO7/MII_TXD2/TX_SHIFT0 (io), 17 D0/AD0/WD_STATE/SI/SIO0, 18 SYNC/LATCH1, 19 D9/AD9/LATCH_IN/SCK, 21 D12/AD12/DIGIO6/GPI6/GPO6/MII_TXD1 (io), 22 D11/AD11/DIGIO5/GPI5/GPO5/MII_TXD0 (io), 23 D10/AD10/DIGIO4/GPI4/GPO4/MII_TXEN (io), 25 A1/ALELO/OE_EXT/MII_CLK25 (io), 26 A3/DIGIO11/GPI11/GPO11/MII_RXDV (io), 27 A4/DIGIO12/GPI12/GPO12/MII_RXD0 (io), 28 CS/DIGIO13/GPI13/GPO13/MII_RXD1 (io), 29 A2/ALEHI/DIGIO10/GPI10/GPO10/LINKACTLED2/MII_LINKPOL/LEDPOL6 (io), 30 WR/ENB/DIGIO14/GPI14/GPO14/MII_RXD2 (io), 31 RD/RD_WR/DIGIO15/GPI15/GPO15/MII_RXD3 (io), 33 A0/D15/AD15/DIGIO9/GPI9/GPO9/MII_RXER (io), 34 SYNC/LATCH0, 35 D3/AD3/WD_TRIG/SIO3, 36 D6/AD6/DIGIO0/GPI0/GPO0/MII_RXCLK (io), 39 D7/AD7/DIGIO1/GPI1/GPO1/MII_MDC (io), 40 D8/AD8/DIGIO2/GPI2/GPO2/MII_MDIO (io), 49 D4/AD4/DIGIO3/GPI3/GPO3/MII_LINK (io), 50 D5/AD5/OUTVALID/SCS#
part A text: POWER; OSC; PORT0; PORT1; OTHER; I2C; GPIO

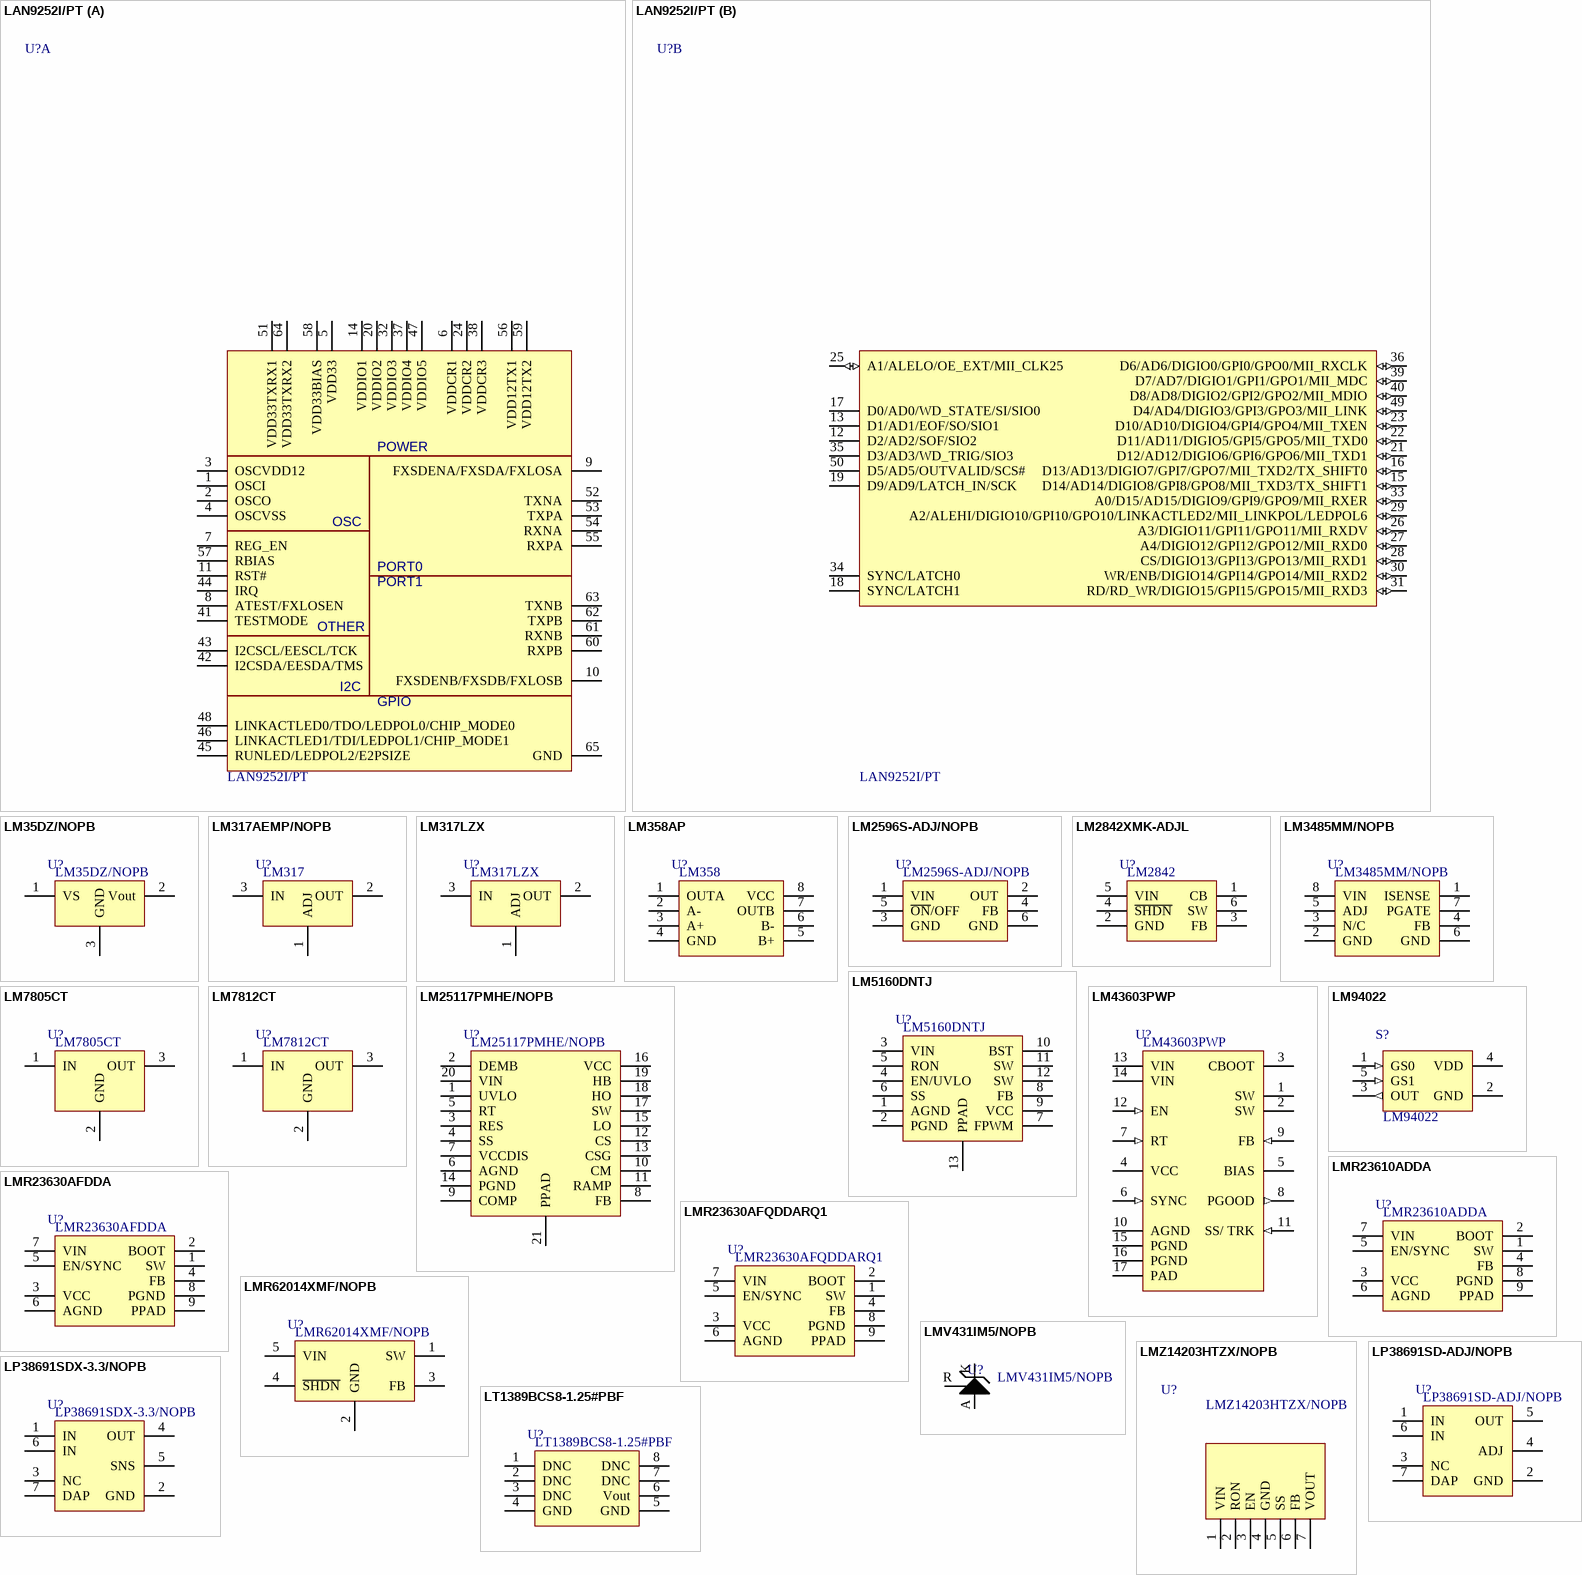
[diagram p2: symbols LAN9252I/PT to LT1389BCS8-1.25#PBF]

## LAN9252I/PT
designator U?
IC ETHERCAT CTLR 10/100 64TQFP; Manufacturer: Microchip Technology; Category: Interface - Controllers; Mount Type: SMD; Supplier 1: Avnet; Supplier Part Number 1: LAN9252I/PT; Supplier 2: Newark; Supplier Part Number 2: 46Y7862; Supplier 3: Arrow; Supplier Part Number 3: LAN9252I/PT; Supplier 4: Mouser; Supplier Part Number 4: 579-LAN9252I/PT; Supplier 5: Digikey; Supplier Part Number 5: LAN9252I/PT-ND; Value: LAN9252I/PT
footprint TQFP-64-PPAD
part A pins: 1 OSCI, 2 OSCO, 3 OSCVDD12, 4 OSCVSS, 5 VDD33 (power), 6 VDDCR1 (power), 7 REG_EN (power), 8 ATEST/FXLOSEN, 9 FXSDENA/FXSDA/FXLOSA, 10 FXSDENB/FXSDB/FXLOSB, 11 RST#, 14 VDDIO1 (power), 20 VDDIO2 (power), 24 VDDCR2 (power), 32 VDDIO3 (power), 37 VDDIO4 (power), 38 VDDCR3 (power), 41 TESTMODE, 42 I2CSDA/EESDA/TMS, 43 I2CSCL/EESCL/TCK, 44 IRQ, 45 RUNLED/LEDPOL2/E2PSIZE, 46 LINKACTLED1/TDI/LEDPOL1/CHIP_MODE1, 47 VDDIO5 (power), 48 LINKACTLED0/TDO/LEDPOL0/CHIP_MODE0, 51 VDD33TXRX1 (power), 52 TXNA, 53 TXPA, 54 RXNA, 55 RXPA, 56 VDD12TX1 (power), 57 RBIAS, 58 VDD33BIAS (power), 59 VDD12TX2 (power), 60 RXPB, 61 RXNB, 62 TXPB, 63 TXNB, 64 VDD33TXRX2 (power), 65 GND
part B pins: 12 D2/AD2/SOF/SIO2, 13 D1/AD1/EOF/SO/SIO1, 15 D14/AD14/DIGIO8/GPI8/GPO8/MII_TXD3/TX_SHIFT1 (io), 16 D13/AD13/DIGIO7/GPI7/GPO7/MII_TXD2/TX_SHIFT0 (io), 17 D0/AD0/WD_STATE/SI/SIO0, 18 SYNC/LATCH1, 19 D9/AD9/LATCH_IN/SCK, 21 D12/AD12/DIGIO6/GPI6/GPO6/MII_TXD1 (io), 22 D11/AD11/DIGIO5/GPI5/GPO5/MII_TXD0 (io), 23 D10/AD10/DIGIO4/GPI4/GPO4/MII_TXEN (io), 25 A1/ALELO/OE_EXT/MII_CLK25 (io), 26 A3/DIGIO11/GPI11/GPO11/MII_RXDV (io), 27 A4/DIGIO12/GPI12/GPO12/MII_RXD0 (io), 28 CS/DIGIO13/GPI13/GPO13/MII_RXD1 (io), 29 A2/ALEHI/DIGIO10/GPI10/GPO10/LINKACTLED2/MII_LINKPOL/LEDPOL6 (io), 30 WR/ENB/DIGIO14/GPI14/GPO14/MII_RXD2 (io), 31 RD/RD_WR/DIGIO15/GPI15/GPO15/MII_RXD3 (io), 33 A0/D15/AD15/DIGIO9/GPI9/GPO9/MII_RXER (io), 34 SYNC/LATCH0, 35 D3/AD3/WD_TRIG/SIO3, 36 D6/AD6/DIGIO0/GPI0/GPO0/MII_RXCLK (io), 39 D7/AD7/DIGIO1/GPI1/GPO1/MII_MDC (io), 40 D8/AD8/DIGIO2/GPI2/GPO2/MII_MDIO (io), 49 D4/AD4/DIGIO3/GPI3/GPO3/MII_LINK (io), 50 D5/AD5/OUTVALID/SCS#
part A text: POWER; OSC; PORT0; PORT1; OTHER; I2C; GPIO

## LM35DZ/NOPB
designator U?
SENSOR TEMP ANLG VOLT TO-92-3; Manufacturer: Texas Instruments; Category: Temperature Sensor; Mount Type: PTH; Supplier 1: Newark; Supplier Part Number 1: 41K4849; Supplier 2: Digi-Key; Supplier Part Number 2: LM35DZ/NOPB-ND; Supplier 3: Farnell; Supplier Part Number 3: 9488200; Value: LM35DZ/NOPB
footprint TO-92
pins: 1 VS, 2 Vout, 3 GND (power)

## LM317AEMP/NOPB
designator U?  value LM317  (hidden comment: LM317AEMP/NOPB)
IC REG LINEAR ADJ 1A SOT223-4; Manufacturer: Texas Instruments; Category: Regulator; Mount Type: SMD; Supplier 1: Farnell; Supplier 2: Newark; Supplier 3: Farnell; Supplier 4: Digi-Key; Supplier Part Number 1: 1652316; Supplier Part Number 2: 61M7387; Supplier Part Number 3: 1469084; Supplier Part Number 4: LM317AEMP/NOPBDKR-ND
footprint SOT223 (SOT223, 4-Leads, Body 6.5x3.5mm, Pitch 2.3mm, Lead Span 7mm, IPC Medium Density)
pins: 1 ADJ, 2 OUT, 3 IN

## LM317LZX
designator U?
IC REG LDO ADJ 0.1A TO92-3; Manufacturer: Fairchild/ON Semiconductor; Category: Regulator; Mount Type: PTH; Supplier 1: Digi-Key; Supplier Part Number 1: LM317LZXCT-ND; Supplier 2: Newark; Supplier Part Number 2: 31Y2323; Supplier 3: Farnell; Supplier Part Number 3: 2451035; Value: LM317LZX
footprint TO-92
pins: 1 ADJ (power), 2 OUT, 3 IN

## LM358AP
designator U?  value LM358  (hidden comment: LM358AP)
IC OPAMP GP 700KHZ DUAL 8DIP; Manufacturer: Texas Instruments; Mount Type: PTH; Category: RTC; Supplier 1: Farnell; Supplier 2: Digi-Key; Supplier 3: Mouser; Supplier 4: Arrow; Supplier 5: Newark; Supplier Part Number 1: 1459520; Supplier Part Number 2: 296-9554-5-ND; Supplier Part Number 3: 595-LM358AP; Supplier Part Number 4: 937716S7579126N7713; Supplier Part Number 5: 67K0318
footprint DIP-8 (DIP, 8-Pin, Row Spacing 7.62 mm, Pitch 2.54 mm)
pins: 1 OUTA, 2 A-, 3 A+, 4 GND (power), 5 B+, 6 B-, 7 OUTB, 8 VCC (power)

## LM2596S-ADJ/NOPB
designator U?
IC REG BOOST ADJ 1.4A SOT23-5; Manufacturer: Texas Instruments; Category: Regulator; Mount Type: SMD; Supplier 1: Farnell; Supplier 2: Newark; Supplier 3: Digi-Key; Supplier 4: Mouser; Supplier Part Number 1: 1469194; Supplier Part Number 2: 41K3842; Supplier Part Number 3: LM2596S-ADJ/NOPB-ND; Supplier Part Number 4: 926-LM2596S-ADJ/NOPB; Value: LM2596S-ADJ/NOPB
footprint TO 263-5 (D2-PAK, 6-Leads, Body 9x10.2mm, Pitch 1.7mm, Lead Span 15.2mm, IPC Medium Density)
pins: 1 VIN, 2 OUT (power), 3 GND, 4 FB, 5 ~{ON}/OFF (power), 6 GND (power)

## LM2842XMK-ADJL
designator U?  value LM2842  (hidden comment: LM2842XMK-ADJL)
Step-Down DC/DC Regulator in Thin SOT-23; Manufacturer: Texas Instruments; Category: Switch Regulator; Mount Type: SMD; Supplier 1: Mouser; Supplier 2: Digi-Key; Supplier 3: Farnell; Supplier 4: Newark; Supplier 5: Arrow; Supplier Part Number 1: 926-M2842XMKADJLNOPB; Supplier Part Number 2: LM2842XMK-ADJLCT-ND; Supplier Part Number 3: 1714822; Supplier Part Number 4: 10R2191; Supplier Part Number 5: 47644530S8370266N1317
footprint SOT26A_HD (SOT23, 6-Leads, Body 2.9x1.7mm, Pitch 0.95mm, Lead Span 2.8mm, IPC High Density)
footprint SOT26A_LD
footprint SOT26A_MD (SOT23, 6-Leads, Body 2.9x1.7mm, Pitch 0.95mm, Lead Span 2.8mm, IPC Medium Density)
pins: 1 CB, 2 GND (power), 3 FB, 4 ~{SHDN}, 5 VIN (power), 6 SW

## LM3485MM/NOPB
designator U?
IC REG CTRLR BUCK PWM 8VSSOP; Manufacturer: Texas Instruments; Category: Regulator; Mount Type: SMD; Supplier 1: Digi-Key; Supplier 2: Farnell; Supplier 3: Newark; Supplier 4: Mouser; Supplier Part Number 1: LM3485MM/NOPBCT-ND; Supplier Part Number 2: 1312569; Supplier Part Number 3: 41K4830; Supplier Part Number 4: 926-LM3485MM/NOPB; Value: LM3485MM/NOPB
footprint MSOP-8 (without exposed pad)
pins: 1 ISENSE, 2 GND, 3 N/C, 4 FB, 5 ADJ, 6 GND, 7 PGATE, 8 VIN

## LM5160DNTJ
designator U?
IC REG BCK FLYBCK ISO ADJ 12WSON; Manufacturer: Texas Instruments; Mount Type: SMD; Category: Regulator; Supplier 1: Digi-Key; Supplier Part Number 1: 296-44117-1-ND; Supplier 2: Avnet; Supplier Part Number 2: LM5160DNTJ; Value: LM5160DNTJ
footprint WFDFN-12-PPAD
pins: 1 AGND (power), 2 PGND (power), 3 VIN (power), 4 EN/UVLO (power), 5 RON (power), 6 SS (power), 7 FPWM (power), 8 FB (power), 9 VCC (power), 10 BST (power), 11 SW (power), 12 SW (power), 13 PPAD (power)

## LM7805CT
designator U?
IC REG LDO 5V 1A TO220-3; Manufacturer: Fairchild Semiconductor; Mount Type: PTH; Category: Regulator; Supplier 1: Mouser; Supplier 2: Digi-Key; Supplier 3: Farnell; Supplier 4: Newark; Supplier Part Number 1: 512-LM7805CT; Supplier Part Number 2: LM7805CT-ND; Supplier Part Number 3: 1523798; Supplier Part Number 4: 34C1092; Value: LM7805CT
footprint TO-220 (TO, Thru-Hole, Vertical, Heatsink Mounted; 3 In-Line Leads; Pitch 2.54 mm)
pins: 1 IN, 2 GND, 3 OUT

## LM7812CT
designator U?
IC REG LDO 12V 1A TO220-3; Manufacturer: Fairchild Semiconductor; Mount Type: PTH; Category: Regulator; Supplier 1: Digi-Key; Supplier Part Number 1: LM7812CTFS-ND; Supplier 2: Farnell; Supplier Part Number 2: 1467365; Value: LM7812CT
footprint TO-220 (TO, Thru-Hole, Vertical, Heatsink Mounted; 3 In-Line Leads; Pitch 2.54 mm)
pins: 1 IN, 2 GND, 3 OUT

## LM25117PMHE/NOPB
designator U?
IC REG CTRLR BUCK PWM CM 20TSSOP; Manufacturer: Texas Instruments; Category: Regulator; Mount Type: SMD; Supplier 1: Mouser; Supplier 2: Newark; Supplier 3: Digi-Key; Supplier Part Number 1: 926-LM25117PMHE/NOPB; Supplier Part Number 2: 59T5256; Supplier Part Number 3: LM25117PMH/NOPB-ND; Value: LM25117PMHE/NOPB
footprint TSSOP-20-PPAD
pins: 1 UVLO, 2 DEMB, 3 RES, 4 SS, 5 RT, 6 AGND (power), 7 VCCDIS, 8 FB, 9 COMP, 10 CM, 11 RAMP, 12 CS, 13 CSG, 14 PGND (power), 15 LO, 16 VCC (power), 17 SW, 18 HO, 19 HB, 20 VIN (power), 21 PPAD

## LM43603PWP
designator U?
IC REG BUCK SYNC ADJ 3A 16HTSSOP; Manufacturer: Linear Technology; Mount type: SMD; Category: DC DC Switching Regulators; Supplier 1: Digi-Key; Supplier Part Number 1: 296-37755-1-ND; Value: LM43603PWP
footprint HTSSOP-16 (HTSSOP, Plastic; 16 Leads; Pitch 0.65 mm)
pins: 1 SW (power), 2 SW, 3 CBOOT (power), 4 VCC (power), 5 BIAS (power), 6 SYNC (in), 7 RT (in), 8 PGOOD (out), 9 FB (in), 10 AGND, 11 SS/ TRK (in), 12 EN (in), 13 VIN (power), 14 VIN (power), 15 PGND (power), 16 PGND, 17 PAD (power)

## LM94022
designator S?
IC TEMP SENSOR MULTI-GAIN SC70-5; Manufacturer: Texas Instruments; Mount Type: SMD; Category: Temperature Sensor; Supplier 1: Farnell; Supplier 2: Mouser; Supplier 3: Digi-Key; Supplier 4: Arrow; Supplier 5: Newark; Supplier Part Number 1: 1312600; Supplier Part Number 2: 926-LM94022BIMG/NOPB; Supplier Part Number 3: LM94022BIMGCT-ND; Supplier Part Number 4: 41612354S8112740N1317; Supplier Part Number 5: 65K6466; Value: LM94022
footprint SC-70
pins: 1 GS0 (in), 2 GND (power), 3 OUT (out), 4 VDD (power), 5 GS1 (in)

## LMR23610ADDA
designator U?
IC REG BUCK ADJ 1A SYNC 8SOPWRPD; Manufacturer: Texas Instruments; Mount Type: SMD; Category: Regulator; Supplier 1: Newark; Supplier Part Number 1: 96Y9334; Supplier 2: Arrow; Supplier Part Number 2: bT2fXX9jKaRkApAGDX_vA5j5UVHjtkDxCcOPMyTO2jg; Supplier 3: Farnell; Supplier Part Number 3: 2617079; Supplier 4: Digi-Key; Supplier Part Number 4: 296-44615-5-ND; Value: LMR23610ADDA
footprint SOIC-8 TPAD
pins: 1 SW, 2 BOOT, 3 VCC, 4 FB, 5 EN/SYNC, 6 AGND, 7 VIN, 8 PGND, 9 PPAD

## LMR23630AFDDA
designator U?
IC REG BUCK ADJ 3A SYNC 8SOPWRPD; Manufacturer: Texas Instruments; Mount Type: SMD; Category: Regulator; Supplier 1: Newark; Supplier Part Number 1: 98Y8905; Supplier 2: Arrow; Supplier Part Number 2: LMR23630AFDDA; Supplier 3: Mouser; Supplier Part Number 3: 595-LMR23630AFDDA; Supplier 4: Digikey; Supplier Part Number 4: 296-44619-5-ND; Value: LMR23630AFDDA
footprint SOIC-8 TPAD
pins: 1 SW, 2 BOOT, 3 VCC, 4 FB, 5 EN/SYNC, 6 AGND, 7 VIN, 8 PGND, 9 PPAD

## LMR23630AFQDDARQ1
designator U?
IC REG BUCK ADJ 3A 8SO; Manufacturer: Texas Instruments; Mount Type: SMD; Category: Regulator; Supplier 1: Arrow; Supplier Part Number 1: 5pu0BSKF3tiS8zS0RqlvYA09Wj4nOAJ1svQfavdvXsc; Supplier 2: Digi-Key; Supplier Part Number 2: 296-45260-1-ND; Value: LMR23630AFQDDARQ1
footprint SOIC-8 TPAD
pins: 1 SW, 2 BOOT, 3 VCC, 4 FB, 5 EN/SYNC, 6 AGND, 7 VIN, 8 PGND, 9 PPAD

## LMR62014XMF/NOPB
designator U?
IC REG BOOST ADJ 1.4A SOT23-5; Manufacturer: Texas Instruments; Category: Regulator; Mount Type: SMD; Supplier 1: Mouser; Supplier 2: Farnell; Supplier 3: Newark; Supplier 4: Digi-Key; Supplier Part Number 1: 926-LMR62014XMF/NOPB; Supplier Part Number 2: 2323535; Supplier Part Number 3: 96W2920; Supplier Part Number 4: LMR62014XMF/NOPBCT-ND; Value: LMR62014XMF/NOPB
footprint SOT23-5
pins: 1 SW, 2 GND (power), 3 FB, 4 ~{SHDN}, 5 VIN (power)

## LMV431IM5/NOPB
designator U?
IC VREF SHUNT ADJ SOT23-5; Manufacturer: Texas Instruments; Mount Type: SMD; Category: PMIC - Voltage Reference; Supplier 1: Digi-Key; Supplier Part Number 1: LMV431IM5/NOPBTR-ND; Value: LMV431IM5/NOPB
footprint SOT23-5; pin to pad A>5 K>3 R>4
pins: A, K, R

## LMZ14203HTZX/NOPB
designator U?
IC BUCK SYNC ADJ 3A TO-PMOD-7; Manufacturer: Texas Instruments; Category: Regulator; Mount Type: SMD; Supplier 1: Farnell; Supplier Part Number 1: 1872929; Supplier 2: Digi-Key; Supplier Part Number 2: 296-43602-1-ND; Supplier 3: Arrow; Supplier Part Number 3: K756oQ7rVKY0KMZ8ai55eVip9fvnHWqORfAv1aANt5M; Supplier 4: Newark; Supplier Part Number 4: 31T9750; Value: LMZ14203HTZX/NOPB
footprint TO-PMOD  (7)
pins: 1 VIN, 2 RON, 3 EN, 4 GND, 5 SS, 6 FB, 7 VOUT

## LP38691SD-ADJ/NOPB
designator U?
IC REG LIN POS ADJ 500MA 6WSON; Manufacturer: Texas Instruments; Mount Type: SMD; Category: Regulator; Supplier 1: Farnell; Supplier Part Number 1: 2781782; Supplier 2: Newark; Supplier Part Number 2: 41K7463; Supplier 3: Mouser; Supplier Part Number 3: 926-38691SD-ADJ/NOPB; Supplier 4: Digi-Key; Supplier Part Number 4: LP38691SD-ADJ/NOPBCT-ND; Value: LP38691SD-ADJ/NOPB
footprint WSON-6 (SON, 6-Leads, Body 3x3 mm, Pitch 0.95mm, NSC Recommended)
pins: 1 IN (power), 2 GND (power), 3 NC, 4 ADJ (power), 5 OUT, 6 IN (power), 7 DAP (power)

## LP38691SDX-3.3/NOPB
designator U?
IC REG LINEAR 3.3V 500MA 6WSON; Manufacturer: Texas Instruments; Mount Type: SMD; Category: Regulator; Supplier 1: Digi-Key; Supplier Part Number 1: 296-42346-1-ND; Supplier 2: Avnet; Supplier Part Number 2: LP38691SDX-3.3/NOPB; Supplier 3: Newark; Supplier Part Number 3: 37X6438; Value: LP38691SDX-3.3/NOPB
footprint WSON-6 (SON, 6-Leads, Body 3x3 mm, Pitch 0.95mm, NSC Recommended)
pins: 1 IN (power), 2 GND (power), 3 NC, 4 OUT (power), 5 SNS, 6 IN (power), 7 DAP (power)

## LT1389BCS8-1.25#PBF
designator U?
IC VREF SHUNT 1.25V 8SOIC; Manufacturer: Linear Technology; Category: PMIC - Voltage Reference; Mount Type: SMD; Supplier 1: Digi-Key; Supplier Part Number 1: LT1389BCS8-1.25#PBF-ND; Value: LT1389BCS8-1.25#PBF
footprint SOIC-8 (SOIC, 8 Pin, Pitch 1,27mm)
pins: 1 DNC, 2 DNC, 3 DNC, 4 GND (power), 5 GND (power), 6 Vout, 7 DNC, 8 DNC (power)

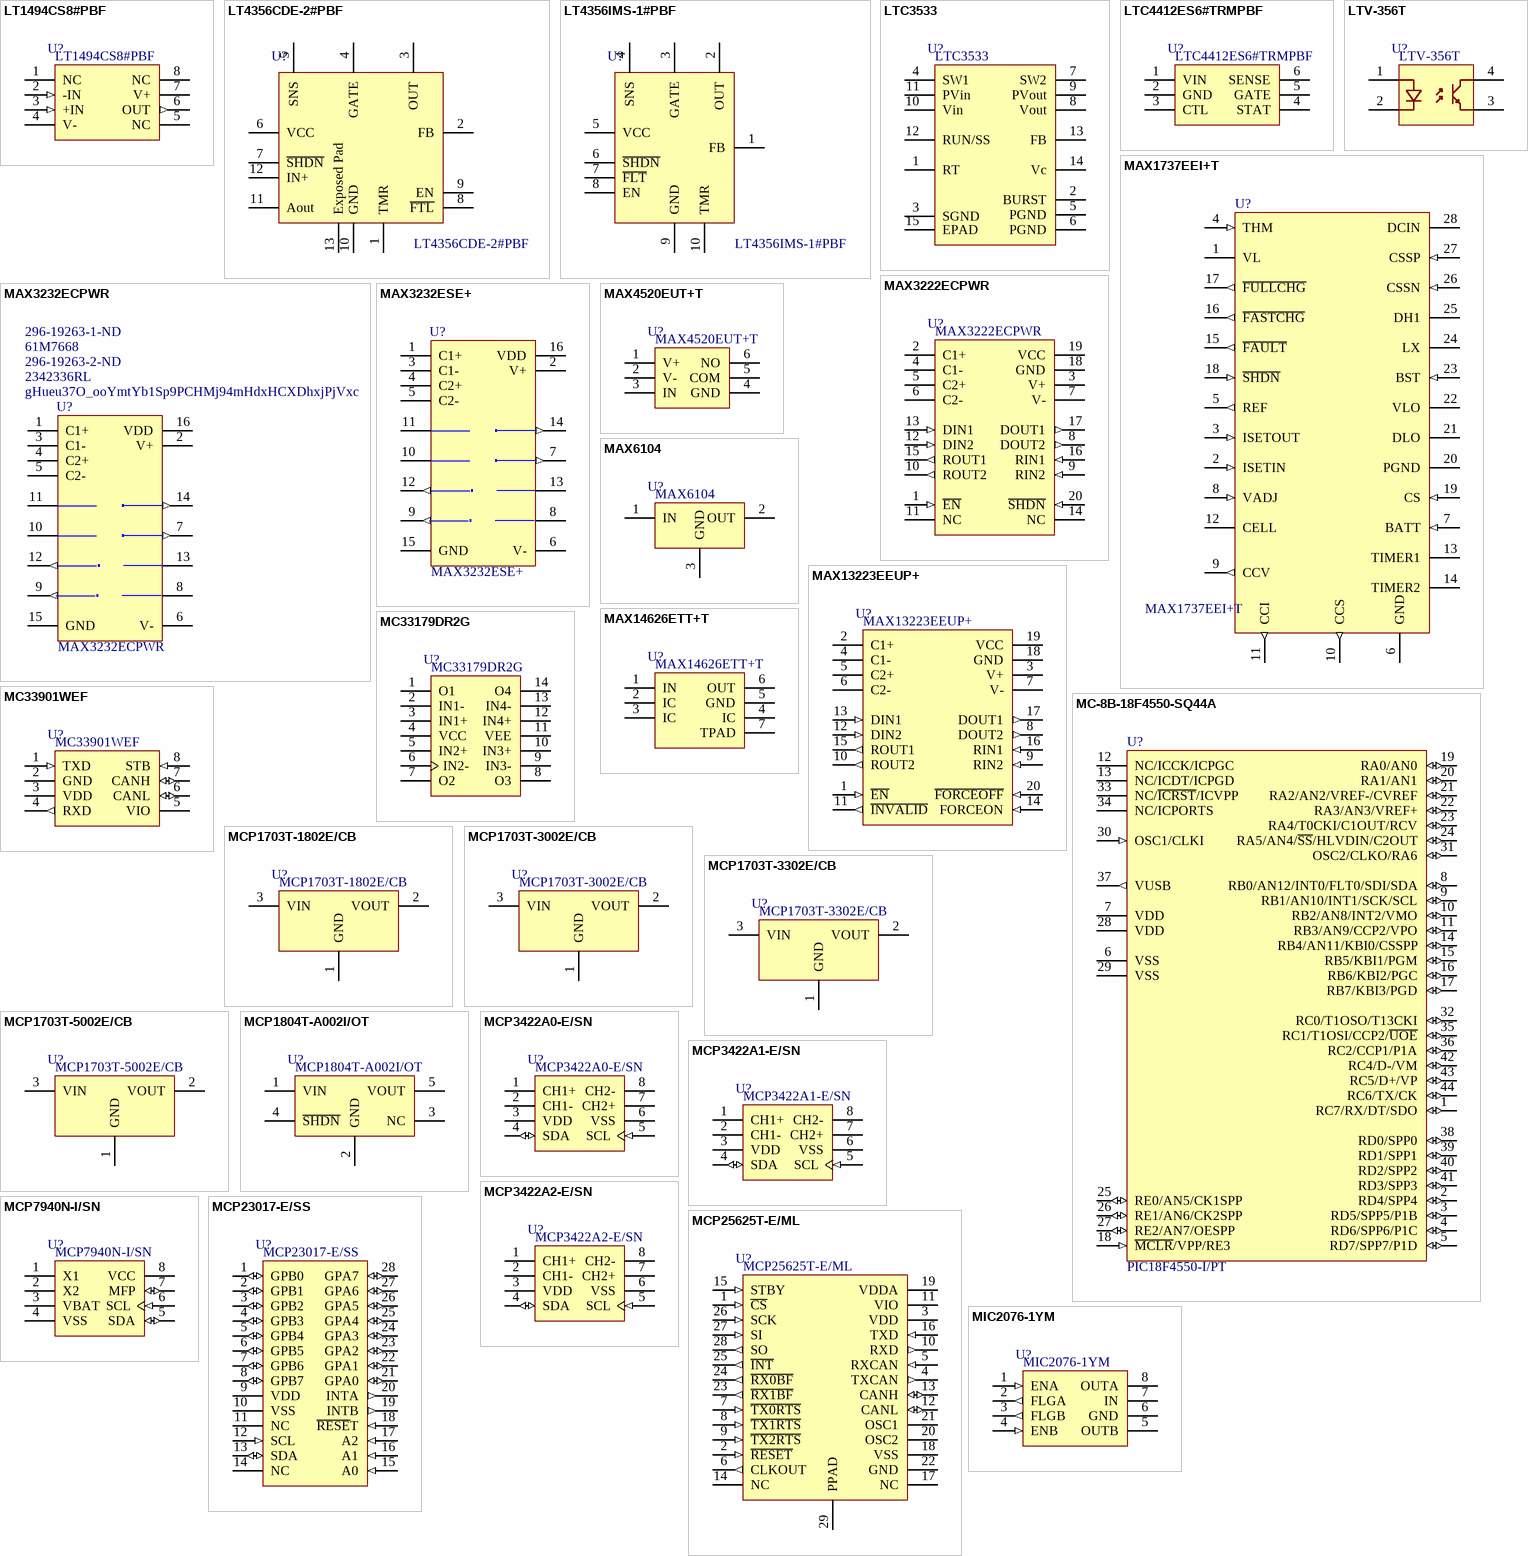
[diagram p3: symbols LT1494CS8#PBF to MIC2076-1YM]

## LT1494CS8#PBF
designator U?
IC OPAMP GP 2.7KHZ RRO 8SO; Manufacturer: Linear Technology; Category: OP Amp; Mount Type: SMD; Supplier 1: Digi-Key; Supplier Part Number 1: LT1494CS8#PBF-ND; Supplier 2: Newark; Supplier Part Number 2: 57M4502; Supplier 3: Farnell; Supplier Part Number 3: 1663436; Value: LT1494CS8#PBF
footprint SOIC-8 (SOIC, 8 Pin, Pitch 1,27mm)
pins: 1 NC, 2 -IN (in), 3 +IN (in), 4 V- (power), 5 NC, 6 OUT (out), 7 V+, 8 NC (power)

## LT4356CDE-2#PBF
designator U?
IC SURGE STOPPER 12-DFN; Manufacturer: Linear Technology; Mount Type: SMD; Category: Surge Suppression ICs; Supplier 1: Newark; Supplier Part Number 1: 51P3111; Value: LT4356CDE-2#PBF
footprint 12-DFN (DFN, 13 Pin, 0.5mm Pitch)
pins: 1 TMR, 2 FB, 3 OUT, 4 GATE, 5 SNS, 6 VCC, 7 ~{SHDN}, 8 ~{FTL}, 9 EN, 10 GND, 11 Aout, 12 IN+, 13 Exposed Pad

## LT4356IMS-1#PBF
designator U?
IC OVERVOLT PROT REG 10MSOP; Manufacturer: Linear Technology; Mount Type: SMD; Category: Surge Suppression ICs; Supplier 1: Digi-Key; Supplier Part Number 1: LT4356IMS-1#PBF-ND; Value: LT4356IMS-1#PBF
footprint TFSOP-10 (without exposed pad)
pins: 1 FB, 2 OUT, 3 GATE, 4 SNS, 5 VCC, 6 ~{SHDN}, 7 ~{FLT}, 8 EN, 9 GND, 10 TMR

## LTC3533
designator U?
IC REG BUCK BOOST SYNC ADJ 14DFN; Manufacturer: Linear Technology; Mount type: SMD; Category: DC DC Switching Regulators; Supplier 1: Digi-Key; Supplier Part Number 1: LTC3533EDE#PBF-ND; Value: LTC3533
footprint DFN-14 (DFN, 15 Pin, 0.5mm Pitch)
pins: 1 RT, 2 BURST, 3 SGND, 4 SW1, 5 PGND, 6 PGND, 7 SW2, 8 Vout, 9 PVout, 10 Vin, 11 PVin, 12 RUN/SS, 13 FB, 14 Vc, 15 EPAD

## LTC4412ES6#TRMPBF
designator U?
IC OR CTRLR SRC SELECT TSOT23-6; Manufacturer: Linear Technology; Category: OR Controller; Mount Type: SMD; Supplier 1: Newark; Supplier 2: Farnell; Supplier 3: Digi-Key; Supplier Part Number 1: 56M9516; Supplier Part Number 2: 1663917; Supplier Part Number 3: LTC4412ES6#TRMPBFCT-ND; Value: LTC4412ES6#TRMPBF
footprint TSOT-23-6
pins: 1 VIN (power), 2 GND (power), 3 CTL, 4 STAT, 5 GATE, 6 SENSE

## LTV-356T
designator U?
OPTOISOLATOR 3.75KV TRANS 4-SOP; Manufacturer: Lite-On Inc.; Category: OPTOISOLATOR; Mount Type: SMD; Supplier 1: Digi-Key; Supplier Part Number 1: 160-1337-1-ND; Value: LTV-356T
footprint 4-SOP (2.54mm) (Phorocoupler LTV-356T)
pins: 1, 2, 3, 4

## MAX1737EEI+T
designator U?
Stand-Alone, Switch-Mode Li+ Battery Charger with Internal 28V Switch; Manufacturer: Maxim Integrated; Mounting Type: SMD; Datasheets: http://datasheets.maximintegrated.com/en/ds/MAX1737.pdf; Supplier 1: Farnell; Supplier Part Number 1: 2518764; Supplier 2: Digi-Key; Supplier Part Number 2: MAX1737EEI+CT-ND; Supplier 3: Newark; Supplier Part Number 3: 80Y4853
footprint SSOP28 - 0.635 pitch
pins: 1 VL (power), 2 ISETIN (in), 3 ISETOUT (in), 4 THM (in), 5 REF (out), 6 GND (power), 7 BATT (in), 8 VADJ (in), 9 CCV (out), 10 CCS (out), 11 CCI (out), 12 CELL, 13 TIMER1, 14 TIMER2, 15 ~{FAULT} (out), 16 ~{FASTCHG} (out), 17 ~{FULLCHG} (out), 18 ~{SHDN} (in), 19 CS (in), 20 PGND (power), 21 DLO (power), 22 VLO (oc), 23 BST (in), 24 LX (power), 25 DH1 (oc), 26 CSSN (in), 27 CSSP (in), 28 DCIN (power)

## MAX3222ECPWR
designator U?
IC RS232 3V-5.5V DRVR 20-TSSOP; Manufacturer: Texas Instruments; Mount Type: SMD; Category: Driver; Supplier 1: Newark; Supplier 2: Mouser; Supplier 3: Farnell; Supplier 4: Digi-Key; Supplier Part Number 1: 71K6683; Supplier Part Number 2: 595-MAX3222ECPWR; Supplier Part Number 3: 1786962; Supplier Part Number 4: 296-19820-1-ND; Value: MAX3222ECPWR
footprint TSSOP-20
pins: 1 ~{EN} (in), 2 C1+, 3 V+, 4 C1-, 5 C2+, 6 C2-, 7 V-, 8 DOUT2 (out), 9 RIN2 (in), 10 ROUT2 (out), 11 NC, 12 DIN2 (in), 13 DIN1 (in), 14 NC, 15 ROUT1 (out), 16 RIN1 (in), 17 DOUT1 (out), 18 GND (power), 19 VCC (power), 20 ~{SHDN} (in)

## MAX3232ECPWR
designator U?  Supplier Part Number 1: gHueu37O_ooYmtYb1Sp9PCHMj94mHdxHCXDhxjPjVxc  Supplier Part Number 2: 2342336RL  Supplier Part Number 3: 296-19263-2-ND  Supplier Part Number 4: 61M7668  Supplier Part Number 5: 296-19263-1-ND  (hidden comment: MAX3232ECPWR)
IC RS232 3V-5.5V DRVR 16-TSSOP; Manufacturer: Maxim Integrated; Mount Type: SMD; Category: Driver; Supplier 1: Arrow; Supplier 2: Farnell; Supplier 3: Digi-Key; Supplier 4: Newark; Supplier 5: Digi-Key; Value: MAX3232ECPWR
footprint TSSOP16_N (TSOP, 16-Leads, Body 5x4.4mm, Pitch 0.65mm, IPC Medium Density)
pins: 1 C1+, 2 V+ (power), 3 C1-, 4 C2+, 5 C2-, 6 V- (power), 7 T2OUT (out), 8 R2IN, 9 R2OUT (out), 10 T2IN, 11 T1IN, 12 R1OUT (out), 13 R1IN, 14 T1OUT (out), 15 GND (power), 16 VDD (power)

## MAX3232ESE+
designator U?
IC TXRX RS-232 LP 16-SOIC; Manufacturer: Maxim Integrated; Mount Type: SMD; Category: Driver; Supplier 1: Farnell; Supplier Part Number 1: 1561980; Supplier 2: Digi-Key; Supplier Part Number 2: MAX3232ESE+TCT-ND; Supplier 3: Newark; Supplier Part Number 3: 19M8690; Value: MAX3232ESE+
footprint SOIC-16
pins: 1 C1+, 2 V+ (power), 3 C1-, 4 C2+, 5 C2-, 6 V- (power), 7 T2OUT (out), 8 R2IN, 9 R2OUT (out), 10 T2IN, 11 T1IN, 12 R1OUT (out), 13 R1IN, 14 T1OUT (out), 15 GND (power), 16 VDD (power)

## MAX4520EUT+T
designator U?
IC ANALOG SWITCH SPST SOT23-6; Manufacturer: Maxim Integrated; Category: Switch; Mount Type: SMD; Supplier 1: Digi-Key; Supplier Part Number 1: MAX4520EUT+TCT-ND; Supplier 2: Mouser; Supplier Part Number 2: 700-MAX4520EUT+T; Value: MAX4520EUT+T
footprint SOT23-6
pins: 1 V+, 2 V-, 3 IN, 4 GND, 5 COM, 6 NO

## MAX6104
designator U?
IC VREF SERIES 4.096V SOT23-3; Manufacturer: Maxim Integrated; Category: Regulator; Mount Type: PTH; Supplier 1: Newark; Supplier Part Number 1: 73Y5203; Supplier 2: Farnell; Supplier Part Number 2: 2511340RL; Supplier 3: Digi-Key; Supplier Part Number 3: MAX6104EUR+TCT-ND; Supplier 4: Digi-Key; Supplier Part Number 4: MAX6104EUR+TDKR-ND; Value: MAX6104
footprint SOT23-3
pins: 1 IN, 2 OUT, 3 GND (power)

## MAX13223EEUP+
designator U?
IC TXRX RS-232 2TX/2RX 20-TSSOP; Manufacturer: Maxim Integrated; Mount Type: SMD; Category: Driver; Supplier 1: Digi-Key; Supplier 2: Newark; Supplier 3: Mouser; Supplier 4: Farnell; Supplier Part Number 1: MAX13223EEUP+-ND; Supplier Part Number 2: 89T8805; Supplier Part Number 3: 700-MAX13223EEUP; Supplier Part Number 4: 2085101; Value: MAX13223EEUP+
footprint TSSOP-20
pins: 1 ~{EN} (in), 2 C1+, 3 V+, 4 C1-, 5 C2+, 6 C2-, 7 V-, 8 DOUT2 (out), 9 RIN2 (in), 10 ROUT2 (out), 11 ~{INVALID} (out), 12 DIN2 (in), 13 DIN1 (in), 14 FORCEON (in), 15 ROUT1 (out), 16 RIN1 (in), 17 DOUT1 (out), 18 GND (power), 19 VCC (power), 20 ~{FORCEOFF} (in)

## MAX14626ETT+T
designator U?
IC CURR LOOP PROT 4-20MA 6TDFN; Manufacturer: Maxim Integrated; Mount Type: SMD; Category: Protection; Supplier 1: Newark; Supplier Part Number 1: 73Y2233; Supplier 2: Digi-Key; Supplier Part Number 2: MAX14626ETT+TCT-ND; Supplier 3: Mouser; Supplier Part Number 3: 700-MAX14626ETT+; Value: MAX14626ETT+T
footprint TDFN-6
pins: 1 IN, 2 IC, 3 IC, 4 IC, 5 GND (power), 6 OUT, 7 TPAD

## MC33179DR2G
designator U?
IC OPAMP GP 5MHZ 14SOIC; Manufacturer: ON Semiconductor; Mount Type: SMD; Category: AmpOp; Supplier 1: Farnell; Supplier Part Number 1: 1651874; Supplier 2: Digi-Key; Supplier Part Number 2: MC33179DR2GOSCT-ND; Supplier 3: Mouser; Supplier Part Number 3: 863-MC33179DG; Supplier 4: Newark; Supplier Part Number 4: 29X6051; Value: MC33179DR2G
footprint SOIC-14
pins: 1 O1, 2 IN1-, 3 IN1+, 4 VCC (power), 5 IN2+, 6 IN2-, 7 O2, 8 O3, 9 IN3-, 10 IN3+, 11 VEE (power), 12 IN4+, 13 IN4-, 14 O4

## MC33901WEF
designator U?
IC TXRX PHY WAKEUP/TIMOUT 8SOIC; Manufacturer: Freescale Semiconductor; Mount Type: SMD; Category: PHY CAN; Supplier 1: Mouser; Supplier 2: Newark; Supplier 3: Farnell; Supplier 4: Digi-Key; Supplier Part Number 1: 841-MC33901WEF; Supplier Part Number 2: 84X1153; Supplier Part Number 3: 2435404; Supplier Part Number 4: MC33901WEF-ND; Value: MC33901WEF
footprint SOIC-8 (SOIC, 8 Pin, Pitch 1,27mm)
pins: 1 TXD (in), 2 GND (power), 3 VDD (power), 4 RXD (out), 5 VIO (power), 6 CANL (io), 7 CANH (io), 8 STB (in)

## MC-8B-18F4550-SQ44A
designator U?, comment PIC18F4550-I/PT
High Performance, Enhanced Flash, USB Microcontroller with nanoWatt Technology, 32K Flash, 44-Pin TQFP, Industrial Temperature Range; Code_JEDEC: MS-026; PackageReference: TQFP-PT44; DatasheetVersion: revE, Aug-2008; PackageDescription: 44-Lead Plastic Thin Quad Flatpack (PT) - 10x10x1mm Body, 2.00mm [TQFP]; PackageVersion: revBB, Aug-2009
footprint TQFP-PT44_L (Thin QFP, 44-Leads, Body 10x10mm, Pitch 0.8mm, IPC High Density)
footprint TQFP-PT44_N (Thin QFP, 44-Leads, Body 10x10mm, Pitch 0.8mm, IPC Medium Density)
footprint TQFP-44
pins: 1 RC7/RX/DT/SDO (io), 2 RD4/SPP4 (io), 3 RD5/SPP5/P1B (io), 4 RD6/SPP6/P1C (io), 5 RD7/SPP7/P1D (io), 6 VSS (power), 7 VDD (power), 8 RB0/AN12/INT0/FLT0/SDI/SDA (io), 9 RB1/AN10/INT1/SCK/SCL (io), 10 RB2/AN8/INT2/VMO (io), 11 RB3/AN9/CCP2/VPO (io), 12 NC/ICCK/ICPGC, 13 NC/ICDT/ICPGD, 14 RB4/AN11/KBI0/CSSPP (io), 15 RB5/KBI1/PGM (io), 16 RB6/KBI2/PGC (io), 17 RB7/KBI3/PGD (io), 18 ~{MCLR}/VPP/RE3 (in), 19 RA0/AN0 (io), 20 RA1/AN1 (io), 21 RA2/AN2/VREF-/CVREF (io), 22 RA3/AN3/VREF+ (io), 23 RA4/T0CKI/C1OUT/RCV (io), 24 RA5/AN4/~{SS}/HLVDIN/C2OUT (io), 25 RE0/AN5/CK1SPP (io), 26 RE1/AN6/CK2SPP (io), 27 RE2/AN7/OESPP (io), 28 VDD (power), 29 VSS (power), 30 OSC1/CLKI (in), 31 OSC2/CLKO/RA6 (io), 32 RC0/T1OSO/T13CKI (io), 33 NC/~{ICRST}/ICVPP, 34 NC/ICPORTS, 35 RC1/T1OSI/CCP2/~{UOE} (io), 36 RC2/CCP1/P1A (io), 37 VUSB (out), 38 RD0/SPP0 (io), 39 RD1/SPP1 (io), 40 RD2/SPP2 (io), 41 RD3/SPP3 (io), 42 RC4/D-/VM (io), 43 RC5/D+/VP (io), 44 RC6/TX/CK (io)

## MCP1703T-1802E/CB
designator U?
IC REG LDO 1.8V 0.2A SOT23A-3; Manufacturer: Microchip; Mount Type: SMD; Category: Regulator; Supplier 1: Mouser; Supplier 2: Newark; Supplier 3: Farnell; Supplier 4: Digi-Key; Supplier Part Number 1: 579-MCP1703T-1802ECB; Supplier Part Number 2: 58M8874; Supplier Part Number 3: 1439516; Supplier Part Number 4: MCP1703T-1802E/CBCT-ND; Value: MCP1703T-1802E/CB
footprint SOT-23
pins: 1 GND, 2 VOUT, 3 VIN

## MCP1703T-3002E/CB
designator U?
IC REG LDO 3V 0.25A SOT23A-3; Manufacturer: Microchip; Mount Type: SMD; Category: Regulator; Supplier 1: Mouser; Supplier Part Number 1: 579-MCP1703T-3002ECB; Supplier 2: Newark; Supplier Part Number 2: 40M0634; Supplier 3: Farnell; Supplier Part Number 3: 1439517; Supplier 4: Digi-Key; Supplier Part Number 4: MCP1703T-3002E/CBCT-ND; Value: MCP1703T-3002E/CB
footprint SOT-23
pins: 1 GND, 2 VOUT, 3 VIN

## MCP1703T-3302E/CB
designator U?
IC REG LDO 3.3V 0.25A SOT23A-3; Manufacturer: Microchip; Mount Type: SMD; Category: Regulator; Supplier 1: Newark; Supplier 2: Mouser; Supplier 3: Farnell; Supplier 4: Allied; Supplier 5: Digi-Key; Supplier Part Number 1: 40M0637; Supplier Part Number 2: 579-MCP1703T-3302ECB; Supplier Part Number 3: 1439518; Supplier Part Number 4: 70046550; Supplier Part Number 5: MCP1703T-3302E/CBCT-ND; Value: MCP1703T-3302E/CB
footprint SOT-23
pins: 1 GND, 2 VOUT, 3 VIN

## MCP1703T-5002E/CB
designator U?
IC REG LDO 5V 0.25A SOT23A-3; Manufacturer: Microchip; Mount Type: SMD; Category: Regulator; Supplier 1: Mouser; Supplier 2: Newark; Supplier 3: Digi-Key; Supplier 4: Farnell; Supplier Part Number 1: 579-MCP1703T-5002ECB; Supplier Part Number 2: 40M0640; Supplier Part Number 3: MCP1703T-5002E/CBCT-ND; Supplier Part Number 4: 1439519; Value: MCP1703T-5002E/CB
footprint SOT-23
pins: 1 GND, 2 VOUT, 3 VIN

## MCP1804T-A002I/OT
designator U?
IC REG LDO 10V 0.15A SOT23-5; Manufacturer: Microchip; Mount Type: SMD; Category: Regulator; Supplier 1: Farnell; Supplier Part Number 1: 1825009; Supplier 2: Digi-Key; Supplier Part Number 2: MCP1804T-A002I/OTCT-ND; Supplier 3: Newark; Supplier Part Number 3: 84R0088; Value: MCP1804T-A002I/OT
footprint SOT23-5
pins: 1 VIN, 2 GND, 3 NC, 4 ~{SHDN}, 5 VOUT

## MCP3422A0-E/SN
designator U?
IC ADC 18BIT3.75SPS 2CH 8-SOIC; Manufacturer: Microchip; Mount Type: SMD; Category: Analog Digital Converter; Supplier 1: Newark; Supplier 2: Mouser; Supplier 3: Farnell; Supplier 4: Allied; Supplier 5: Digi-Key; Supplier Part Number 1: 54M4863; Supplier Part Number 2: 579-MCP3422A0-E/SN; Supplier Part Number 3: 1690406; Supplier Part Number 4: 70047014; Supplier Part Number 5: MCP3422A0-E/SN-ND; Value: MCP3422A0-E/SN
footprint SOIC-8 (SOIC, 8 Pin, Pitch 1,27mm)
pins: 1 CH1+, 2 CH1-, 3 VDD (power), 4 SDA (io), 5 SCL (in), 6 VSS (power), 7 CH2+, 8 CH2-

## MCP3422A1-E/SN
designator U?
IC ADC 18BIT I2C 3.75SPS 8SOIC; Manufacturer: Microchip; Mount Type: SMD; Category: Analog Digital Converter; Supplier 1: Digi-Key; Supplier 2: Mouser; Supplier Part Number 1: MCP3422A1-E/SN-ND; Supplier Part Number 2: 579-MCP3422A1-E/SN; Value: MCP3422A1-E/SN
footprint SOIC-8 (SOIC, 8 Pin, Pitch 1,27mm)
pins: 1 CH1+, 2 CH1-, 3 VDD (power), 4 SDA (io), 5 SCL (in), 6 VSS (power), 7 CH2+, 8 CH2-

## MCP3422A2-E/SN
designator U?
IC ADC 18BIT I2C 3.75SPS 8SOIC; Manufacturer: Microchip; Mount Type: SMD; Category: Analog Digital Converter; Supplier 1: Mouser; Supplier 2: Digi-Key; Supplier Part Number 1: 579-MCP3422A2-E/SN; Supplier Part Number 2: MCP3422A2-E/SN-ND; Value: MCP3422A2-E/SN
footprint SOIC-8 (SOIC, 8 Pin, Pitch 1,27mm)
pins: 1 CH1+, 2 CH1-, 3 VDD (power), 4 SDA (io), 5 SCL (in), 6 VSS (power), 7 CH2+, 8 CH2-

## MCP7940N-I/SN
designator U?
IC RTCC 64B SRAM GP 8-SOIC; Manufacturer: Microchip; Mount Type: SMD; Category: Real Time Clock; Supplier 1: Newark; Supplier 2: Mouser; Supplier 3: Digi-Key; Supplier Part Number 1: 26T2748; Supplier Part Number 2: 579-MCP7940N-I/SN; Supplier Part Number 3: MCP7940N-I/SN-ND; Value: MCP7940N-I/SN
footprint SOIC-8 (SOIC, 8 Pin, Pitch 1,27mm)
pins: 1 X1, 2 X2, 3 VBAT (power), 4 VSS (power), 5 SDA (io), 6 SCL (in), 7 MFP (io), 8 VCC (power)